# Altium integrated library Xilinx CoolRunner XPLA3.IntLib: 110 symbols (part 1 of 7)
Pins are listed as number, name and electrical type; pins without a type are passive.

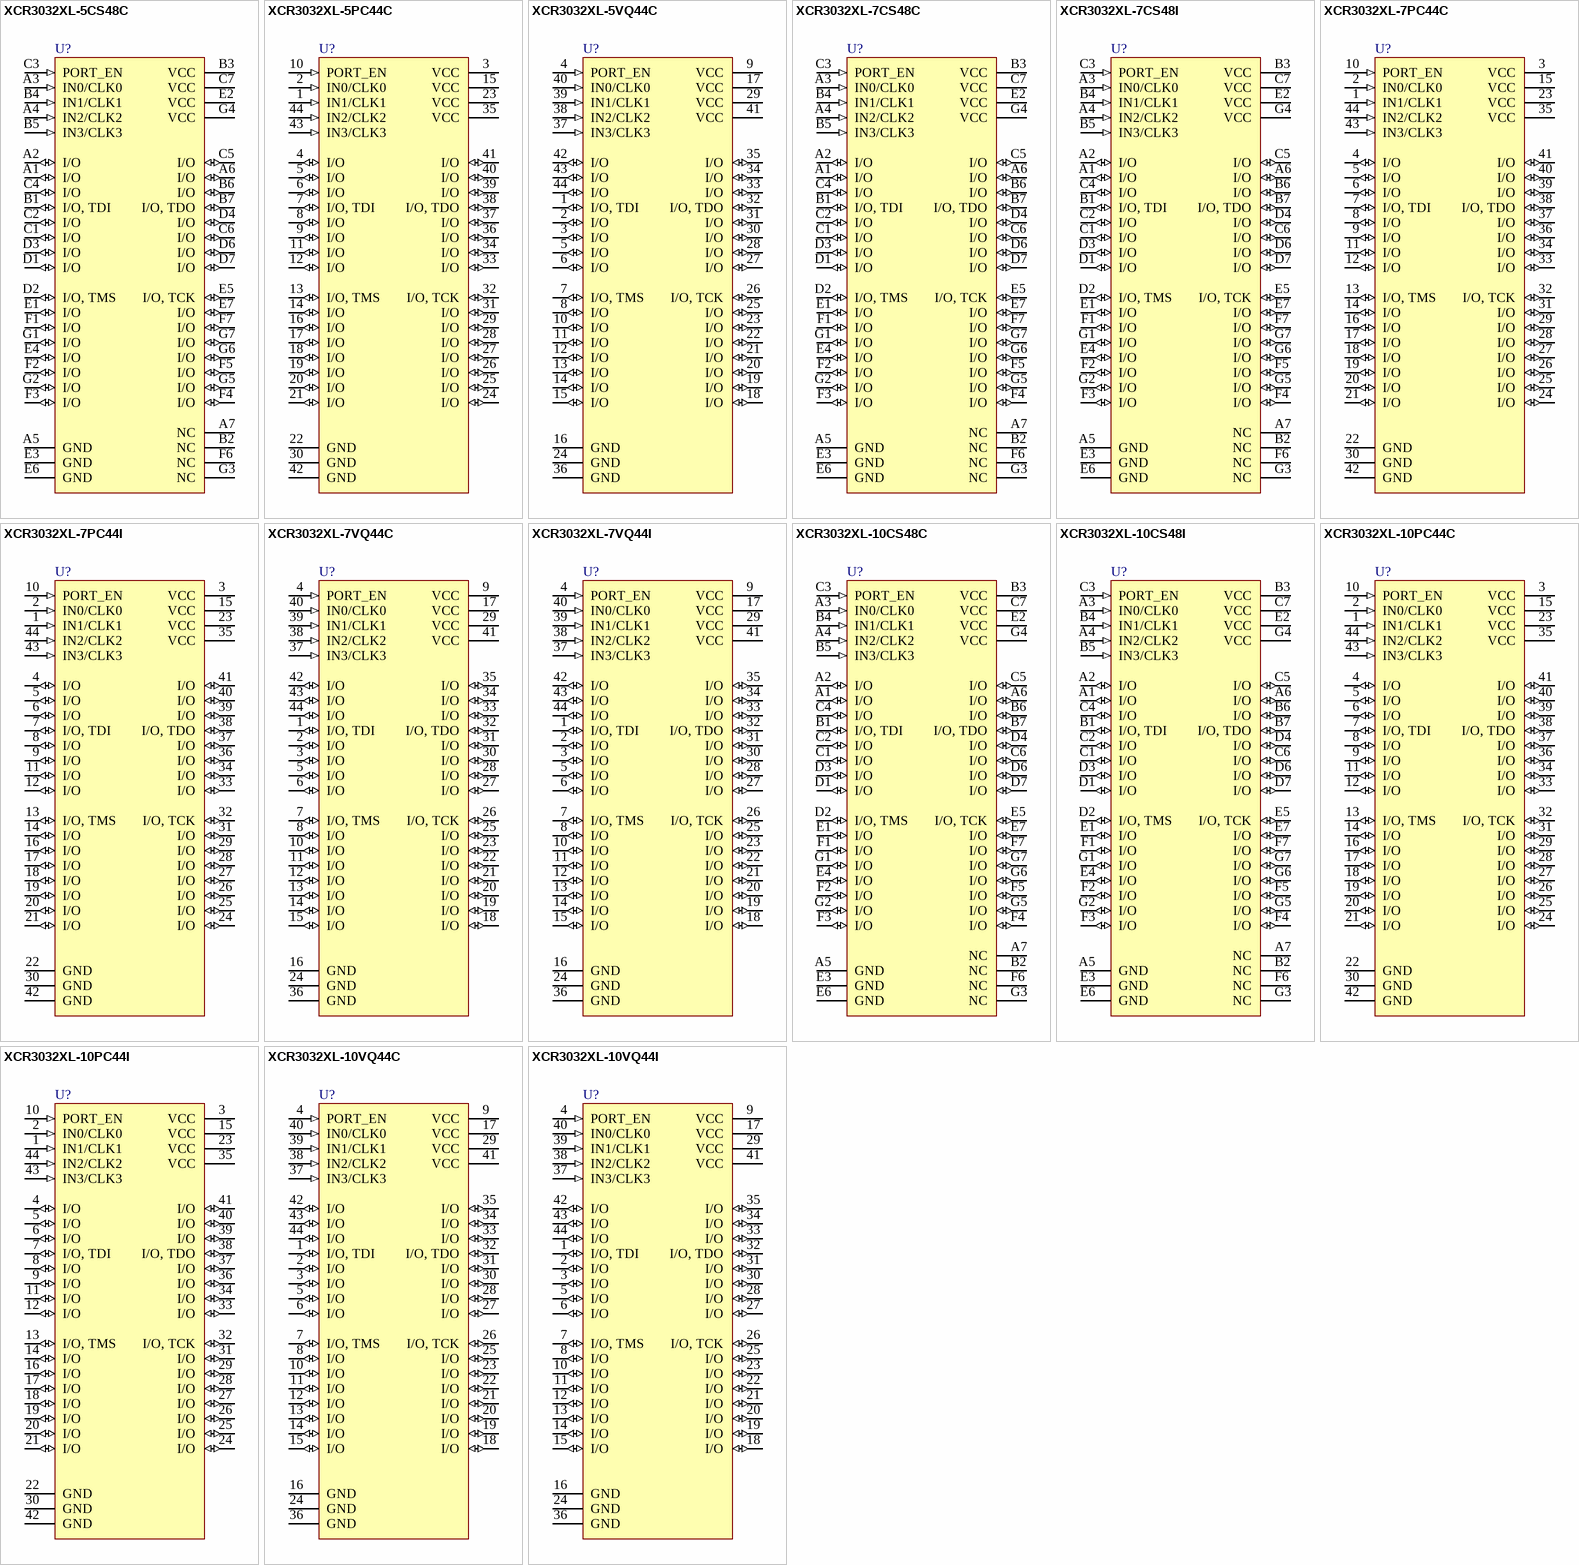
[diagram p0: symbols XCR3032XL-5CS48C to XCR3032XL-10VQ44I]

## XCR3032XL-5CS48C
designator U?
CoolRunner XPLA3, 3.3V, 32 Macrocell CPLD, 48-Ball CSBGA, Commercial Grade; PackageDocument: ver1.1, Apr-2001; Published: 17-Jul-2002; DatasheetDocument: ver1.9, Feb-2004; PackageReference: CS48; Publisher: Altium Limited
footprint CS48 (48-Ball Chip Scale Ball Grid Array (CS48))
3D model XCR3032XL-CS48 (48-Ball Chip Scale Ball Grid Array (CS48))
signal-integrity model XCR3032XL_CS48 (CoolRunner XPLA3)
pins: A1 I/O (io), A2 I/O (io), A3 IN0/CLK0 (in), A4 IN2/CLK2 (in), A5 GND (power), A6 I/O (io), A7 NC, B1 I/O, TDI (io), B2 NC, B3 VCC (power), B4 IN1/CLK1 (in), B5 IN3/CLK3 (in), B6 I/O (io), B7 I/O, TDO (io), C1 I/O (io), C2 I/O (io), C3 PORT_EN (in), C4 I/O (io), C5 I/O (io), C6 I/O (io), C7 VCC (power), D1 I/O (io), D2 I/O, TMS (io), D3 I/O (io), D4 I/O (io), D6 I/O (io), D7 I/O (io), E1 I/O (io), E2 VCC (power), E3 GND (power), E4 I/O (io), E5 I/O, TCK (io), E6 GND (power), E7 I/O (io), F1 I/O (io), F2 I/O (io), F3 I/O (io), F4 I/O (io), F5 I/O (io), F6 NC, F7 I/O (io), G1 I/O (io), G2 I/O (io), G3 NC, G4 VCC (power), G5 I/O (io), G6 I/O (io), G7 I/O (io)

## XCR3032XL-5PC44C
designator U?
CoolRunner XPLA3, 3.3V, 32 Macrocell CPLD, 44-Pin PLCC, Commercial Grade; PackageDocument: ver1.0, Jun-2000; Published: 17-Jul-2002; DatasheetDocument: ver1.9, Feb-2004; PackageReference: PC44; Publisher: Altium Limited; Code_JEDEC: MS-047; Code_IPC: PLCC-44
footprint PC44 (44-Pin Plastic Leaded Chip Carrier (PC44))
3D model XCR3032XL-PC44 (44-Pin Plastic Leaded Chip Carrier (PC44))
signal-integrity model XCR3032XL_PC44 (CoolRunner XPLA3)
pins: 1 IN1/CLK1 (in), 2 IN0/CLK0 (in), 3 VCC (power), 4 I/O (io), 5 I/O (io), 6 I/O (io), 7 I/O, TDI (io), 8 I/O (io), 9 I/O (io), 10 PORT_EN (in), 11 I/O (io), 12 I/O (io), 13 I/O, TMS (io), 14 I/O (io), 15 VCC (power), 16 I/O (io), 17 I/O (io), 18 I/O (io), 19 I/O (io), 20 I/O (io), 21 I/O (io), 22 GND (power), 23 VCC (power), 24 I/O (io), 25 I/O (io), 26 I/O (io), 27 I/O (io), 28 I/O (io), 29 I/O (io), 30 GND (power), 31 I/O (io), 32 I/O, TCK (io), 33 I/O (io), 34 I/O (io), 35 VCC (power), 36 I/O (io), 37 I/O (io), 38 I/O, TDO (io), 39 I/O (io), 40 I/O (io), 41 I/O (io), 42 GND (power), 43 IN3/CLK3 (in), 44 IN2/CLK2 (in)

## XCR3032XL-5VQ44C
designator U?
CoolRunner XPLA3, 3.3V, 32 Macrocell CPLD, 44-Pin VQFP, Commercial Grade; PackageDocument: ver1.1, Oct-2002; Published: 17-Jul-2002; DatasheetDocument: ver1.9, Feb-2004; PackageReference: VQ44; Publisher: Altium Limited; Code_JEDEC: MS-026-ACB
footprint VQ44 (44-Pin Very Thin Quad Flat Pack (VQ44))
3D model XCR3032XL-VQ44 (44-Pin Very Thin Quad Flat Pack (VQ44))
signal-integrity model XCR3032XL_VQ44 (CoolRunner XPLA3)
pins: 1 I/O, TDI (io), 2 I/O (io), 3 I/O (io), 4 PORT_EN (in), 5 I/O (io), 6 I/O (io), 7 I/O, TMS (io), 8 I/O (io), 9 VCC (power), 10 I/O (io), 11 I/O (io), 12 I/O (io), 13 I/O (io), 14 I/O (io), 15 I/O (io), 16 GND (power), 17 VCC (power), 18 I/O (io), 19 I/O (io), 20 I/O (io), 21 I/O (io), 22 I/O (io), 23 I/O (io), 24 GND (power), 25 I/O (io), 26 I/O, TCK (io), 27 I/O (io), 28 I/O (io), 29 VCC (power), 30 I/O (io), 31 I/O (io), 32 I/O, TDO (io), 33 I/O (io), 34 I/O (io), 35 I/O (io), 36 GND (power), 37 IN3/CLK3 (in), 38 IN2/CLK2 (in), 39 IN1/CLK1 (in), 40 IN0/CLK0 (in), 41 VCC (power), 42 I/O (io), 43 I/O (io), 44 I/O (io)

## XCR3032XL-7CS48C
designator U?
CoolRunner XPLA3, 3.3V, 32 Macrocell CPLD, 48-Ball CSBGA, Commercial Grade; PackageDocument: ver1.1, Apr-2001; Published: 17-Jul-2002; DatasheetDocument: ver1.9, Feb-2004; PackageReference: CS48; Publisher: Altium Limited
footprint CS48 (48-Ball Chip Scale Ball Grid Array (CS48))
3D model XCR3032XL-CS48 (48-Ball Chip Scale Ball Grid Array (CS48))
signal-integrity model XCR3032XL_CS48 (CoolRunner XPLA3)
pins: A1 I/O (io), A2 I/O (io), A3 IN0/CLK0 (in), A4 IN2/CLK2 (in), A5 GND (power), A6 I/O (io), A7 NC, B1 I/O, TDI (io), B2 NC, B3 VCC (power), B4 IN1/CLK1 (in), B5 IN3/CLK3 (in), B6 I/O (io), B7 I/O, TDO (io), C1 I/O (io), C2 I/O (io), C3 PORT_EN (in), C4 I/O (io), C5 I/O (io), C6 I/O (io), C7 VCC (power), D1 I/O (io), D2 I/O, TMS (io), D3 I/O (io), D4 I/O (io), D6 I/O (io), D7 I/O (io), E1 I/O (io), E2 VCC (power), E3 GND (power), E4 I/O (io), E5 I/O, TCK (io), E6 GND (power), E7 I/O (io), F1 I/O (io), F2 I/O (io), F3 I/O (io), F4 I/O (io), F5 I/O (io), F6 NC, F7 I/O (io), G1 I/O (io), G2 I/O (io), G3 NC, G4 VCC (power), G5 I/O (io), G6 I/O (io), G7 I/O (io)

## XCR3032XL-7CS48I
designator U?
CoolRunner XPLA3, 3.3V, 32 Macrocell CPLD, 48-Ball CSBGA, Industrial Grade; PackageDocument: ver1.1, Apr-2001; Published: 17-Jul-2002; DatasheetDocument: ver1.9, Feb-2004; PackageReference: CS48; Publisher: Altium Limited
footprint CS48 (48-Ball Chip Scale Ball Grid Array (CS48))
3D model XCR3032XL-CS48 (48-Ball Chip Scale Ball Grid Array (CS48))
signal-integrity model XCR3032XL_CS48 (CoolRunner XPLA3)
pins: A1 I/O (io), A2 I/O (io), A3 IN0/CLK0 (in), A4 IN2/CLK2 (in), A5 GND (power), A6 I/O (io), A7 NC, B1 I/O, TDI (io), B2 NC, B3 VCC (power), B4 IN1/CLK1 (in), B5 IN3/CLK3 (in), B6 I/O (io), B7 I/O, TDO (io), C1 I/O (io), C2 I/O (io), C3 PORT_EN (in), C4 I/O (io), C5 I/O (io), C6 I/O (io), C7 VCC (power), D1 I/O (io), D2 I/O, TMS (io), D3 I/O (io), D4 I/O (io), D6 I/O (io), D7 I/O (io), E1 I/O (io), E2 VCC (power), E3 GND (power), E4 I/O (io), E5 I/O, TCK (io), E6 GND (power), E7 I/O (io), F1 I/O (io), F2 I/O (io), F3 I/O (io), F4 I/O (io), F5 I/O (io), F6 NC, F7 I/O (io), G1 I/O (io), G2 I/O (io), G3 NC, G4 VCC (power), G5 I/O (io), G6 I/O (io), G7 I/O (io)

## XCR3032XL-7PC44C
designator U?
CoolRunner XPLA3, 3.3V, 32 Macrocell CPLD, 44-Pin PLCC, Commercial Grade; PackageDocument: ver1.0, Jun-2000; Published: 17-Jul-2002; DatasheetDocument: ver1.9, Feb-2004; PackageReference: PC44; Publisher: Altium Limited; Code_JEDEC: MS-047; Code_IPC: PLCC-44
footprint PC44 (44-Pin Plastic Leaded Chip Carrier (PC44))
3D model XCR3032XL-PC44 (44-Pin Plastic Leaded Chip Carrier (PC44))
signal-integrity model XCR3032XL_PC44 (CoolRunner XPLA3)
pins: 1 IN1/CLK1 (in), 2 IN0/CLK0 (in), 3 VCC (power), 4 I/O (io), 5 I/O (io), 6 I/O (io), 7 I/O, TDI (io), 8 I/O (io), 9 I/O (io), 10 PORT_EN (in), 11 I/O (io), 12 I/O (io), 13 I/O, TMS (io), 14 I/O (io), 15 VCC (power), 16 I/O (io), 17 I/O (io), 18 I/O (io), 19 I/O (io), 20 I/O (io), 21 I/O (io), 22 GND (power), 23 VCC (power), 24 I/O (io), 25 I/O (io), 26 I/O (io), 27 I/O (io), 28 I/O (io), 29 I/O (io), 30 GND (power), 31 I/O (io), 32 I/O, TCK (io), 33 I/O (io), 34 I/O (io), 35 VCC (power), 36 I/O (io), 37 I/O (io), 38 I/O, TDO (io), 39 I/O (io), 40 I/O (io), 41 I/O (io), 42 GND (power), 43 IN3/CLK3 (in), 44 IN2/CLK2 (in)

## XCR3032XL-7PC44I
designator U?
CoolRunner XPLA3, 3.3V, 32 Macrocell CPLD, 44-Pin PLCC, Industrial Grade; PackageDocument: ver1.0, Jun-2000; Published: 17-Jul-2002; DatasheetDocument: ver1.9, Feb-2004; PackageReference: PC44; Publisher: Altium Limited; Code_JEDEC: MS-047; Code_IPC: PLCC-44
footprint PC44 (44-Pin Plastic Leaded Chip Carrier (PC44))
3D model XCR3032XL-PC44 (44-Pin Plastic Leaded Chip Carrier (PC44))
signal-integrity model XCR3032XL_PC44 (CoolRunner XPLA3)
pins: 1 IN1/CLK1 (in), 2 IN0/CLK0 (in), 3 VCC (power), 4 I/O (io), 5 I/O (io), 6 I/O (io), 7 I/O, TDI (io), 8 I/O (io), 9 I/O (io), 10 PORT_EN (in), 11 I/O (io), 12 I/O (io), 13 I/O, TMS (io), 14 I/O (io), 15 VCC (power), 16 I/O (io), 17 I/O (io), 18 I/O (io), 19 I/O (io), 20 I/O (io), 21 I/O (io), 22 GND (power), 23 VCC (power), 24 I/O (io), 25 I/O (io), 26 I/O (io), 27 I/O (io), 28 I/O (io), 29 I/O (io), 30 GND (power), 31 I/O (io), 32 I/O, TCK (io), 33 I/O (io), 34 I/O (io), 35 VCC (power), 36 I/O (io), 37 I/O (io), 38 I/O, TDO (io), 39 I/O (io), 40 I/O (io), 41 I/O (io), 42 GND (power), 43 IN3/CLK3 (in), 44 IN2/CLK2 (in)

## XCR3032XL-7VQ44C
designator U?
CoolRunner XPLA3, 3.3V, 32 Macrocell CPLD, 44-Pin VQFP, Commercial Grade; PackageDocument: ver1.1, Oct-2002; Published: 17-Jul-2002; DatasheetDocument: ver1.9, Feb-2004; PackageReference: VQ44; Publisher: Altium Limited; Code_JEDEC: MS-026-ACB
footprint VQ44 (44-Pin Very Thin Quad Flat Pack (VQ44))
3D model XCR3032XL-VQ44 (44-Pin Very Thin Quad Flat Pack (VQ44))
signal-integrity model XCR3032XL_VQ44 (CoolRunner XPLA3)
pins: 1 I/O, TDI (io), 2 I/O (io), 3 I/O (io), 4 PORT_EN (in), 5 I/O (io), 6 I/O (io), 7 I/O, TMS (io), 8 I/O (io), 9 VCC (power), 10 I/O (io), 11 I/O (io), 12 I/O (io), 13 I/O (io), 14 I/O (io), 15 I/O (io), 16 GND (power), 17 VCC (power), 18 I/O (io), 19 I/O (io), 20 I/O (io), 21 I/O (io), 22 I/O (io), 23 I/O (io), 24 GND (power), 25 I/O (io), 26 I/O, TCK (io), 27 I/O (io), 28 I/O (io), 29 VCC (power), 30 I/O (io), 31 I/O (io), 32 I/O, TDO (io), 33 I/O (io), 34 I/O (io), 35 I/O (io), 36 GND (power), 37 IN3/CLK3 (in), 38 IN2/CLK2 (in), 39 IN1/CLK1 (in), 40 IN0/CLK0 (in), 41 VCC (power), 42 I/O (io), 43 I/O (io), 44 I/O (io)

## XCR3032XL-7VQ44I
designator U?
CoolRunner XPLA3, 3.3V, 32 Macrocell CPLD, 44-Pin VQFP, Industrial Grade; PackageDocument: ver1.1, Oct-2002; Published: 17-Jul-2002; DatasheetDocument: ver1.9, Feb-2004; PackageReference: VQ44; Publisher: Altium Limited; Code_JEDEC: MS-026-ACB
footprint VQ44 (44-Pin Very Thin Quad Flat Pack (VQ44))
3D model XCR3032XL-VQ44 (44-Pin Very Thin Quad Flat Pack (VQ44))
signal-integrity model XCR3032XL_VQ44 (CoolRunner XPLA3)
pins: 1 I/O, TDI (io), 2 I/O (io), 3 I/O (io), 4 PORT_EN (in), 5 I/O (io), 6 I/O (io), 7 I/O, TMS (io), 8 I/O (io), 9 VCC (power), 10 I/O (io), 11 I/O (io), 12 I/O (io), 13 I/O (io), 14 I/O (io), 15 I/O (io), 16 GND (power), 17 VCC (power), 18 I/O (io), 19 I/O (io), 20 I/O (io), 21 I/O (io), 22 I/O (io), 23 I/O (io), 24 GND (power), 25 I/O (io), 26 I/O, TCK (io), 27 I/O (io), 28 I/O (io), 29 VCC (power), 30 I/O (io), 31 I/O (io), 32 I/O, TDO (io), 33 I/O (io), 34 I/O (io), 35 I/O (io), 36 GND (power), 37 IN3/CLK3 (in), 38 IN2/CLK2 (in), 39 IN1/CLK1 (in), 40 IN0/CLK0 (in), 41 VCC (power), 42 I/O (io), 43 I/O (io), 44 I/O (io)

## XCR3032XL-10CS48C
designator U?
CoolRunner XPLA3, 3.3V, 32 Macrocell CPLD, 48-Ball CSBGA, Commercial Grade; PackageDocument: ver1.1, Apr-2001; Published: 17-Jul-2002; DatasheetDocument: ver1.9, Feb-2004; PackageReference: CS48; Publisher: Altium Limited
footprint CS48 (48-Ball Chip Scale Ball Grid Array (CS48))
3D model XCR3032XL-CS48 (48-Ball Chip Scale Ball Grid Array (CS48))
signal-integrity model XCR3032XL_CS48 (CoolRunner XPLA3)
pins: A1 I/O (io), A2 I/O (io), A3 IN0/CLK0 (in), A4 IN2/CLK2 (in), A5 GND (power), A6 I/O (io), A7 NC, B1 I/O, TDI (io), B2 NC, B3 VCC (power), B4 IN1/CLK1 (in), B5 IN3/CLK3 (in), B6 I/O (io), B7 I/O, TDO (io), C1 I/O (io), C2 I/O (io), C3 PORT_EN (in), C4 I/O (io), C5 I/O (io), C6 I/O (io), C7 VCC (power), D1 I/O (io), D2 I/O, TMS (io), D3 I/O (io), D4 I/O (io), D6 I/O (io), D7 I/O (io), E1 I/O (io), E2 VCC (power), E3 GND (power), E4 I/O (io), E5 I/O, TCK (io), E6 GND (power), E7 I/O (io), F1 I/O (io), F2 I/O (io), F3 I/O (io), F4 I/O (io), F5 I/O (io), F6 NC, F7 I/O (io), G1 I/O (io), G2 I/O (io), G3 NC, G4 VCC (power), G5 I/O (io), G6 I/O (io), G7 I/O (io)

## XCR3032XL-10CS48I
designator U?
CoolRunner XPLA3, 3.3V, 32 Macrocell CPLD, 48-Ball CSBGA, Industrial Grade; PackageDocument: ver1.1, Apr-2001; Published: 17-Jul-2002; DatasheetDocument: ver1.9, Feb-2004; PackageReference: CS48; Publisher: Altium Limited
footprint CS48 (48-Ball Chip Scale Ball Grid Array (CS48))
3D model XCR3032XL-CS48 (48-Ball Chip Scale Ball Grid Array (CS48))
signal-integrity model XCR3032XL_CS48 (CoolRunner XPLA3)
pins: A1 I/O (io), A2 I/O (io), A3 IN0/CLK0 (in), A4 IN2/CLK2 (in), A5 GND (power), A6 I/O (io), A7 NC, B1 I/O, TDI (io), B2 NC, B3 VCC (power), B4 IN1/CLK1 (in), B5 IN3/CLK3 (in), B6 I/O (io), B7 I/O, TDO (io), C1 I/O (io), C2 I/O (io), C3 PORT_EN (in), C4 I/O (io), C5 I/O (io), C6 I/O (io), C7 VCC (power), D1 I/O (io), D2 I/O, TMS (io), D3 I/O (io), D4 I/O (io), D6 I/O (io), D7 I/O (io), E1 I/O (io), E2 VCC (power), E3 GND (power), E4 I/O (io), E5 I/O, TCK (io), E6 GND (power), E7 I/O (io), F1 I/O (io), F2 I/O (io), F3 I/O (io), F4 I/O (io), F5 I/O (io), F6 NC, F7 I/O (io), G1 I/O (io), G2 I/O (io), G3 NC, G4 VCC (power), G5 I/O (io), G6 I/O (io), G7 I/O (io)

## XCR3032XL-10PC44C
designator U?
CoolRunner XPLA3, 3.3V, 32 Macrocell CPLD, 44-Pin PLCC, Commercial Grade; PackageDocument: ver1.0, Jun-2000; Published: 17-Jul-2002; DatasheetDocument: ver1.9, Feb-2004; PackageReference: PC44; Publisher: Altium Limited; Code_JEDEC: MS-047; Code_IPC: PLCC-44
footprint PC44 (44-Pin Plastic Leaded Chip Carrier (PC44))
3D model XCR3032XL-PC44 (44-Pin Plastic Leaded Chip Carrier (PC44))
signal-integrity model XCR3032XL_PC44 (CoolRunner XPLA3)
pins: 1 IN1/CLK1 (in), 2 IN0/CLK0 (in), 3 VCC (power), 4 I/O (io), 5 I/O (io), 6 I/O (io), 7 I/O, TDI (io), 8 I/O (io), 9 I/O (io), 10 PORT_EN (in), 11 I/O (io), 12 I/O (io), 13 I/O, TMS (io), 14 I/O (io), 15 VCC (power), 16 I/O (io), 17 I/O (io), 18 I/O (io), 19 I/O (io), 20 I/O (io), 21 I/O (io), 22 GND (power), 23 VCC (power), 24 I/O (io), 25 I/O (io), 26 I/O (io), 27 I/O (io), 28 I/O (io), 29 I/O (io), 30 GND (power), 31 I/O (io), 32 I/O, TCK (io), 33 I/O (io), 34 I/O (io), 35 VCC (power), 36 I/O (io), 37 I/O (io), 38 I/O, TDO (io), 39 I/O (io), 40 I/O (io), 41 I/O (io), 42 GND (power), 43 IN3/CLK3 (in), 44 IN2/CLK2 (in)

## XCR3032XL-10PC44I
designator U?
CoolRunner XPLA3, 3.3V, 32 Macrocell CPLD, 44-Pin PLCC, Industrial Grade; PackageDocument: ver1.0, Jun-2000; Published: 17-Jul-2002; DatasheetDocument: ver1.9, Feb-2004; PackageReference: PC44; Publisher: Altium Limited; Code_JEDEC: MS-047; Code_IPC: PLCC-44
footprint PC44 (44-Pin Plastic Leaded Chip Carrier (PC44))
3D model XCR3032XL-PC44 (44-Pin Plastic Leaded Chip Carrier (PC44))
signal-integrity model XCR3032XL_PC44 (CoolRunner XPLA3)
pins: 1 IN1/CLK1 (in), 2 IN0/CLK0 (in), 3 VCC (power), 4 I/O (io), 5 I/O (io), 6 I/O (io), 7 I/O, TDI (io), 8 I/O (io), 9 I/O (io), 10 PORT_EN (in), 11 I/O (io), 12 I/O (io), 13 I/O, TMS (io), 14 I/O (io), 15 VCC (power), 16 I/O (io), 17 I/O (io), 18 I/O (io), 19 I/O (io), 20 I/O (io), 21 I/O (io), 22 GND (power), 23 VCC (power), 24 I/O (io), 25 I/O (io), 26 I/O (io), 27 I/O (io), 28 I/O (io), 29 I/O (io), 30 GND (power), 31 I/O (io), 32 I/O, TCK (io), 33 I/O (io), 34 I/O (io), 35 VCC (power), 36 I/O (io), 37 I/O (io), 38 I/O, TDO (io), 39 I/O (io), 40 I/O (io), 41 I/O (io), 42 GND (power), 43 IN3/CLK3 (in), 44 IN2/CLK2 (in)

## XCR3032XL-10VQ44C
designator U?
CoolRunner XPLA3, 3.3V, 32 Macrocell CPLD, 44-Pin VQFP, Commercial Grade; PackageDocument: ver1.1, Oct-2002; Published: 17-Jul-2002; DatasheetDocument: ver1.9, Feb-2004; PackageReference: VQ44; Publisher: Altium Limited; Code_JEDEC: MS-026-ACB
footprint VQ44 (44-Pin Very Thin Quad Flat Pack (VQ44))
3D model XCR3032XL-VQ44 (44-Pin Very Thin Quad Flat Pack (VQ44))
signal-integrity model XCR3032XL_VQ44 (CoolRunner XPLA3)
pins: 1 I/O, TDI (io), 2 I/O (io), 3 I/O (io), 4 PORT_EN (in), 5 I/O (io), 6 I/O (io), 7 I/O, TMS (io), 8 I/O (io), 9 VCC (power), 10 I/O (io), 11 I/O (io), 12 I/O (io), 13 I/O (io), 14 I/O (io), 15 I/O (io), 16 GND (power), 17 VCC (power), 18 I/O (io), 19 I/O (io), 20 I/O (io), 21 I/O (io), 22 I/O (io), 23 I/O (io), 24 GND (power), 25 I/O (io), 26 I/O, TCK (io), 27 I/O (io), 28 I/O (io), 29 VCC (power), 30 I/O (io), 31 I/O (io), 32 I/O, TDO (io), 33 I/O (io), 34 I/O (io), 35 I/O (io), 36 GND (power), 37 IN3/CLK3 (in), 38 IN2/CLK2 (in), 39 IN1/CLK1 (in), 40 IN0/CLK0 (in), 41 VCC (power), 42 I/O (io), 43 I/O (io), 44 I/O (io)

## XCR3032XL-10VQ44I
designator U?
CoolRunner XPLA3, 3.3V, 32 Macrocell CPLD, 44-Pin VQFP, Industrial Grade; PackageDocument: ver1.1, Oct-2002; Published: 17-Jul-2002; DatasheetDocument: ver1.9, Feb-2004; PackageReference: VQ44; Publisher: Altium Limited; Code_JEDEC: MS-026-ACB
footprint VQ44 (44-Pin Very Thin Quad Flat Pack (VQ44))
3D model XCR3032XL-VQ44 (44-Pin Very Thin Quad Flat Pack (VQ44))
signal-integrity model XCR3032XL_VQ44 (CoolRunner XPLA3)
pins: 1 I/O, TDI (io), 2 I/O (io), 3 I/O (io), 4 PORT_EN (in), 5 I/O (io), 6 I/O (io), 7 I/O, TMS (io), 8 I/O (io), 9 VCC (power), 10 I/O (io), 11 I/O (io), 12 I/O (io), 13 I/O (io), 14 I/O (io), 15 I/O (io), 16 GND (power), 17 VCC (power), 18 I/O (io), 19 I/O (io), 20 I/O (io), 21 I/O (io), 22 I/O (io), 23 I/O (io), 24 GND (power), 25 I/O (io), 26 I/O, TCK (io), 27 I/O (io), 28 I/O (io), 29 VCC (power), 30 I/O (io), 31 I/O (io), 32 I/O, TDO (io), 33 I/O (io), 34 I/O (io), 35 I/O (io), 36 GND (power), 37 IN3/CLK3 (in), 38 IN2/CLK2 (in), 39 IN1/CLK1 (in), 40 IN0/CLK0 (in), 41 VCC (power), 42 I/O (io), 43 I/O (io), 44 I/O (io)

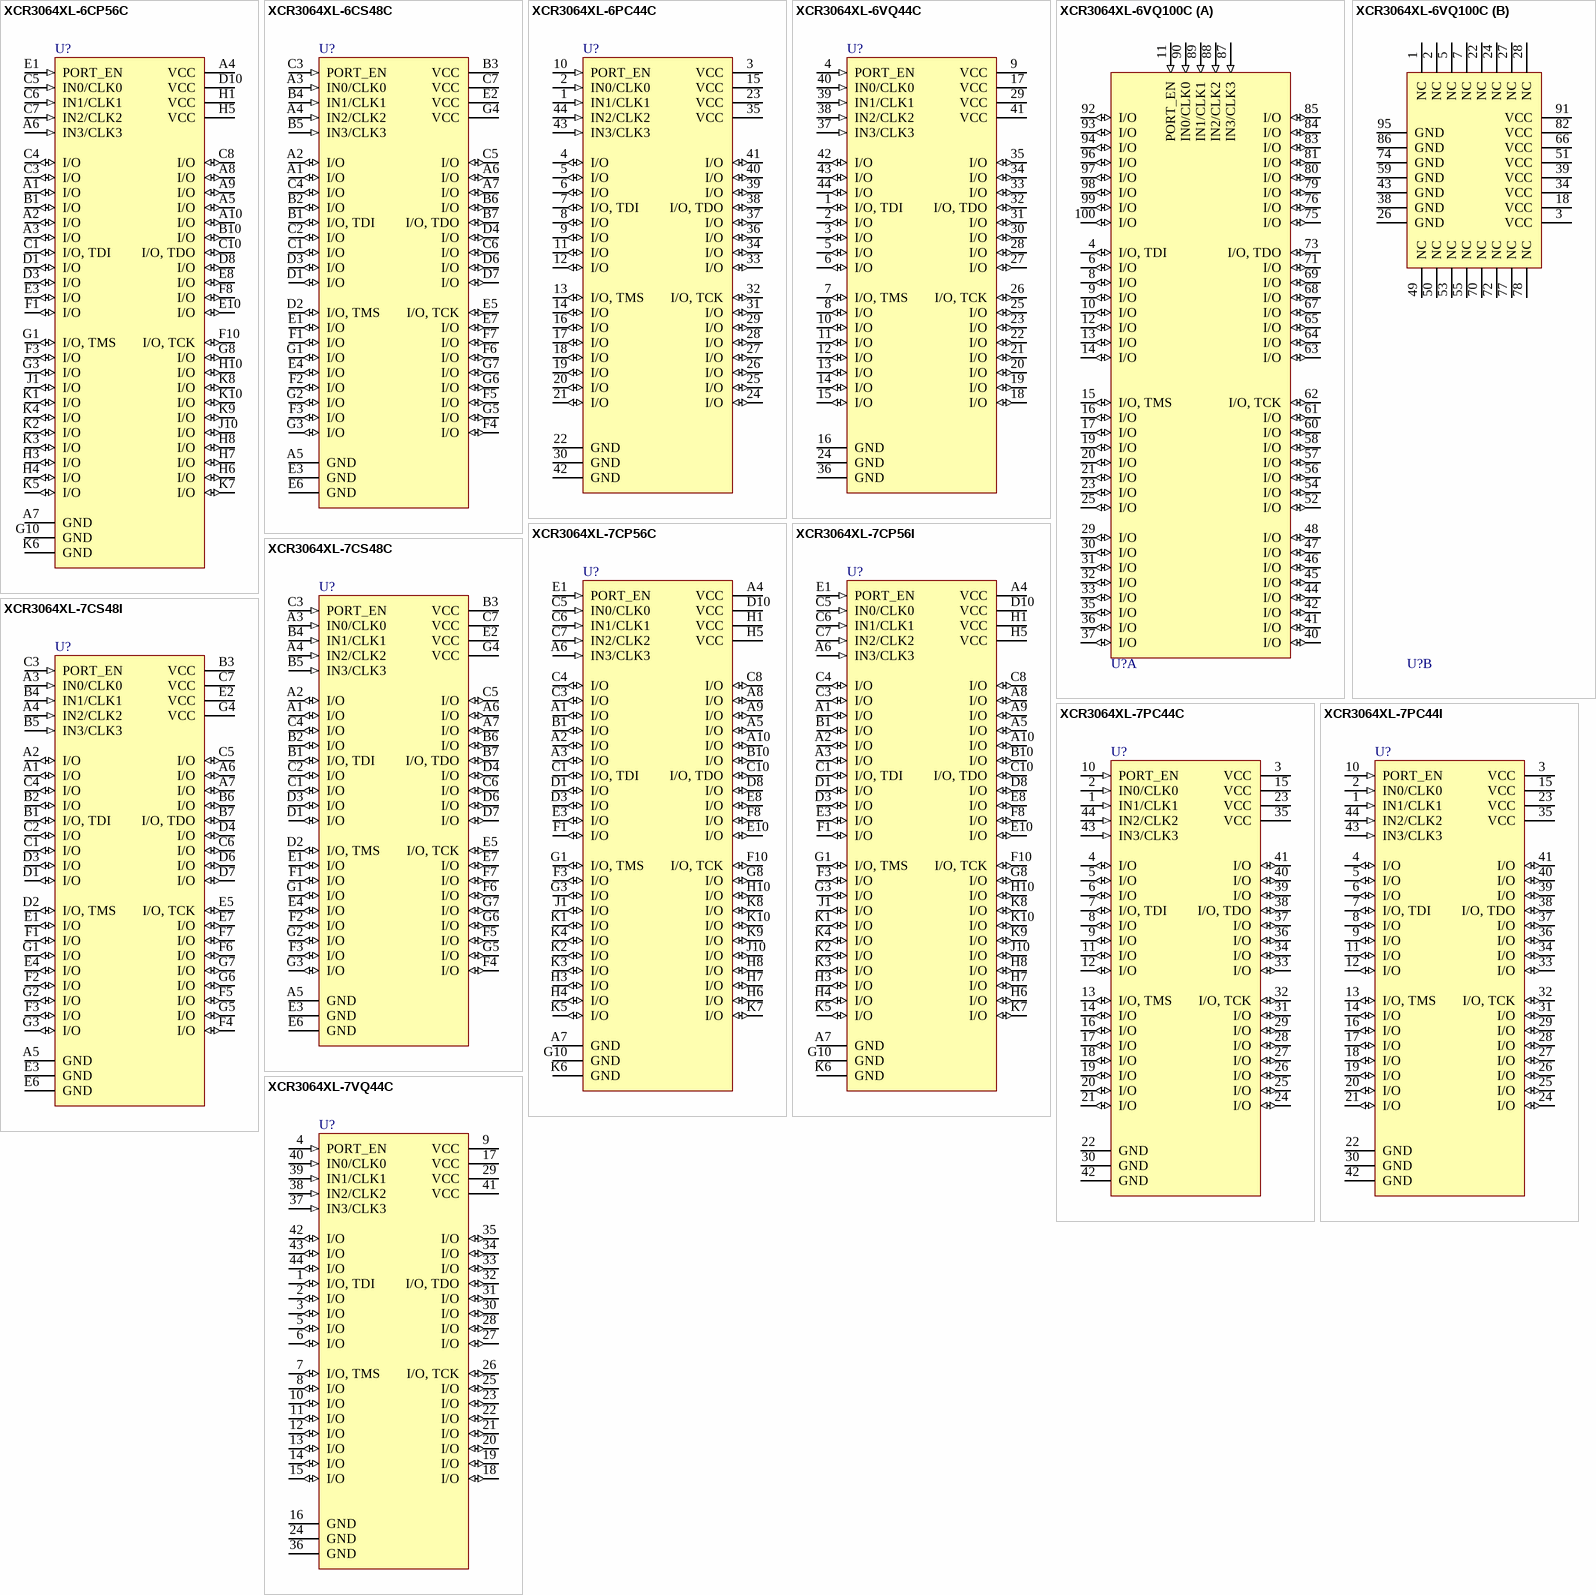
[diagram p1: symbols XCR3064XL-6CP56C to XCR3064XL-7VQ44C]

## XCR3064XL-6CP56C
designator U?
CoolRunner XPLA3, 3.3V, 64 Macrocell CPLD, 56-Ball CSP, Commercial Grade; PackageDocument: ver1.0, Jun-2000; Published: 17-Jul-2002; DatasheetDocument: ver2.1, Feb-2004; PackageReference: CP56; Publisher: Altium Limited
footprint CP56 (56-Ball Chip Scale Ball Grid Array 0.5mm Pitch (CP56))
3D model XCR3064XL-CP56 (56-Ball Chip Scale Ball Grid Array 0.5mm Pitch (CP56))
signal-integrity model XCR3064XL_CP56 (CoolRunner XPLA3)
pins: A1 I/O (io), A2 I/O (io), A3 I/O (io), A4 VCC (power), A5 I/O (io), A6 IN3/CLK3 (in), A7 GND (power), A8 I/O (io), A9 I/O (io), A10 I/O (io), B1 I/O (io), B10 I/O (io), C1 I/O, TDI (io), C3 I/O (io), C4 I/O (io), C5 IN0/CLK0 (in), C6 IN1/CLK1 (in), C7 IN2/CLK2 (in), C8 I/O (io), C10 I/O, TDO (io), D1 I/O (io), D3 I/O (io), D8 I/O (io), D10 VCC (power), E1 PORT_EN (in), E3 I/O (io), E8 I/O (io), E10 I/O (io), F1 I/O (io), F3 I/O (io), F8 I/O (io), F10 I/O, TCK (io), G1 I/O, TMS (io), G3 I/O (io), G8 I/O (io), G10 GND (power), H1 VCC (power), H3 I/O (io), H4 I/O (io), H5 VCC (power), H6 I/O (io), H7 I/O (io), H8 I/O (io), H10 I/O (io), J1 I/O (io), J10 I/O (io), K1 I/O (io), K2 I/O (io), K3 I/O (io), K4 I/O (io), K5 I/O (io), K6 GND (power), K7 I/O (io), K8 I/O (io), K9 I/O (io), K10 I/O (io)

## XCR3064XL-6CS48C
designator U?
CoolRunner XPLA3, 3.3V, 64 Macrocell CPLD, 48-Ball CSBGA, Commercial Grade; PackageDocument: ver1.1, Apr-2001; Published: 17-Jul-2002; DatasheetDocument: ver2.1, Feb-2004; PackageReference: CS48; Publisher: Altium Limited
footprint CS48 (48-Ball Chip Scale Ball Grid Array (CS48))
3D model XCR3064XL-CS48 (48-Ball Chip Scale Ball Grid Array (CS48))
signal-integrity model XCR3064XL_CS48 (CoolRunner XPLA3)
pins: A1 I/O (io), A2 I/O (io), A3 IN0/CLK0 (in), A4 IN2/CLK2 (in), A5 GND (power), A6 I/O (io), A7 I/O (io), B1 I/O, TDI (io), B2 I/O (io), B3 VCC (power), B4 IN1/CLK1 (in), B5 IN3/CLK3 (in), B6 I/O (io), B7 I/O, TDO (io), C1 I/O (io), C2 I/O (io), C3 PORT_EN (in), C4 I/O (io), C5 I/O (io), C6 I/O (io), C7 VCC (power), D1 I/O (io), D2 I/O, TMS (io), D3 I/O (io), D4 I/O (io), D6 I/O (io), D7 I/O (io), E1 I/O (io), E2 VCC (power), E3 GND (power), E4 I/O (io), E5 I/O, TCK (io), E6 GND (power), E7 I/O (io), F1 I/O (io), F2 I/O (io), F3 I/O (io), F4 I/O (io), F5 I/O (io), F6 I/O (io), F7 I/O (io), G1 I/O (io), G2 I/O (io), G3 I/O (io), G4 VCC (power), G5 I/O (io), G6 I/O (io), G7 I/O (io)

## XCR3064XL-6PC44C
designator U?
CoolRunner XPLA3, 3.3V, 64 Macrocell CPLD, 44-Pin PLCC, Commercial Grade; PackageDocument: ver1.0, Jun-2000; Published: 17-Jul-2002; DatasheetDocument: ver2.1, Feb-2004; PackageReference: PC44; Publisher: Altium Limited; Code_JEDEC: MS-047; Code_IPC: PLCC-44
footprint PC44 (44-Pin Plastic Leaded Chip Carrier (PC44))
3D model XCR3064XL-PC44 (44-Pin Plastic Leaded Chip Carrier (PC44))
signal-integrity model XCR3064XL_PC44 (CoolRunner XPLA3)
pins: 1 IN1/CLK1 (in), 2 IN0/CLK0 (in), 3 VCC (power), 4 I/O (io), 5 I/O (io), 6 I/O (io), 7 I/O, TDI (io), 8 I/O (io), 9 I/O (io), 10 PORT_EN (in), 11 I/O (io), 12 I/O (io), 13 I/O, TMS (io), 14 I/O (io), 15 VCC (power), 16 I/O (io), 17 I/O (io), 18 I/O (io), 19 I/O (io), 20 I/O (io), 21 I/O (io), 22 GND (power), 23 VCC (power), 24 I/O (io), 25 I/O (io), 26 I/O (io), 27 I/O (io), 28 I/O (io), 29 I/O (io), 30 GND (power), 31 I/O (io), 32 I/O, TCK (io), 33 I/O (io), 34 I/O (io), 35 VCC (power), 36 I/O (io), 37 I/O (io), 38 I/O, TDO (io), 39 I/O (io), 40 I/O (io), 41 I/O (io), 42 GND (power), 43 IN3/CLK3 (in), 44 IN2/CLK2 (in)

## XCR3064XL-6VQ44C
designator U?
CoolRunner XPLA3, 3.3V, 64 Macrocell CPLD, 44-Pin VQFP, Commercial Grade; PackageDocument: ver1.1, Oct-2002; Published: 17-Jul-2002; DatasheetDocument: ver2.1, Feb-2004; PackageReference: VQ44; Publisher: Altium Limited; Code_JEDEC: MS-026-ACB
footprint VQ44 (44-Pin Very Thin Quad Flat Pack (VQ44))
3D model XCR3064XL-VQ44 (44-Pin Very Thin Quad Flat Pack (VQ44))
signal-integrity model XCR3064XL_VQ44 (CoolRunner XPLA3)
pins: 1 I/O, TDI (io), 2 I/O (io), 3 I/O (io), 4 PORT_EN (in), 5 I/O (io), 6 I/O (io), 7 I/O, TMS (io), 8 I/O (io), 9 VCC (power), 10 I/O (io), 11 I/O (io), 12 I/O (io), 13 I/O (io), 14 I/O (io), 15 I/O (io), 16 GND (power), 17 VCC (power), 18 I/O (io), 19 I/O (io), 20 I/O (io), 21 I/O (io), 22 I/O (io), 23 I/O (io), 24 GND (power), 25 I/O (io), 26 I/O, TCK (io), 27 I/O (io), 28 I/O (io), 29 VCC (power), 30 I/O (io), 31 I/O (io), 32 I/O, TDO (io), 33 I/O (io), 34 I/O (io), 35 I/O (io), 36 GND (power), 37 IN3/CLK3 (in), 38 IN2/CLK2 (in), 39 IN1/CLK1 (in), 40 IN0/CLK0 (in), 41 VCC (power), 42 I/O (io), 43 I/O (io), 44 I/O (io)

## XCR3064XL-6VQ100C
designator U?
CoolRunner XPLA3, 3.3V, 64 Macrocell CPLD, 100-Pin VQFP, Commercial Grade; PackageDocument: ver1.1, Oct-2002; Published: 17-Jul-2002; DatasheetDocument: ver2.1, Feb-2004; PackageReference: VQ100; Publisher: Altium Limited; Code_JEDEC: MS-026-AED; Code_IPC: SQFP14X14-100
footprint VQ100 (100-Pin Very Thin Quad Flat Pack (VQ100))
3D model XCR3064XL-VQ100 (100-Pin Very Thin Quad Flat Pack (VQ100))
signal-integrity model XCR3064XL_VQ100 (CoolRunner XPLA3)
part A pins: 4 I/O, TDI (io), 6 I/O (io), 8 I/O (io), 9 I/O (io), 10 I/O (io), 11 PORT_EN (in), 12 I/O (io), 13 I/O (io), 14 I/O (io), 15 I/O, TMS (io), 16 I/O (io), 17 I/O (io), 19 I/O (io), 20 I/O (io), 21 I/O (io), 23 I/O (io), 25 I/O (io), 29 I/O (io), 30 I/O (io), 31 I/O (io), 32 I/O (io), 33 I/O (io), 35 I/O (io), 36 I/O (io), 37 I/O (io), 40 I/O (io), 41 I/O (io), 42 I/O (io), 44 I/O (io), 45 I/O (io), 46 I/O (io), 47 I/O (io), 48 I/O (io), 52 I/O (io), 54 I/O (io), 56 I/O (io), 57 I/O (io), 58 I/O (io), 60 I/O (io), 61 I/O (io), 62 I/O, TCK (io), 63 I/O (io), 64 I/O (io), 65 I/O (io), 67 I/O (io), 68 I/O (io), 69 I/O (io), 71 I/O (io), 73 I/O, TDO (io), 75 I/O (io), 76 I/O (io), 79 I/O (io), 80 I/O (io), 81 I/O (io), 83 I/O (io), 84 I/O (io), 85 I/O (io), 87 IN3/CLK3 (in), 88 IN2/CLK2 (in), 89 IN1/CLK1 (in), 90 IN0/CLK0 (in), 92 I/O (io), 93 I/O (io), 94 I/O (io), 96 I/O (io), 97 I/O (io), 98 I/O (io), 99 I/O (io), 100 I/O (io)
part B pins: 1 NC, 2 NC, 3 VCC (power), 5 NC, 7 NC, 18 VCC (power), 22 NC, 24 NC, 26 GND (power), 27 NC, 28 NC, 34 VCC (power), 38 GND (power), 39 VCC (power), 43 GND (power), 49 NC, 50 NC, 51 VCC (power), 53 NC, 55 NC, 59 GND (power), 66 VCC (power), 70 NC, 72 NC, 74 GND (power), 77 NC, 78 NC, 82 VCC (power), 86 GND (power), 91 VCC (power), 95 GND (power)

## XCR3064XL-7CP56C
designator U?
CoolRunner XPLA3, 3.3V, 64 Macrocell CPLD, 56-Ball CSP, Commercial Grade; PackageDocument: ver1.0, Jun-2000; Published: 17-Jul-2002; DatasheetDocument: ver2.1, Feb-2004; PackageReference: CP56; Publisher: Altium Limited
footprint CP56 (56-Ball Chip Scale Ball Grid Array 0.5mm Pitch (CP56))
3D model XCR3064XL-CP56 (56-Ball Chip Scale Ball Grid Array 0.5mm Pitch (CP56))
signal-integrity model XCR3064XL_CP56 (CoolRunner XPLA3)
pins: A1 I/O (io), A2 I/O (io), A3 I/O (io), A4 VCC (power), A5 I/O (io), A6 IN3/CLK3 (in), A7 GND (power), A8 I/O (io), A9 I/O (io), A10 I/O (io), B1 I/O (io), B10 I/O (io), C1 I/O, TDI (io), C3 I/O (io), C4 I/O (io), C5 IN0/CLK0 (in), C6 IN1/CLK1 (in), C7 IN2/CLK2 (in), C8 I/O (io), C10 I/O, TDO (io), D1 I/O (io), D3 I/O (io), D8 I/O (io), D10 VCC (power), E1 PORT_EN (in), E3 I/O (io), E8 I/O (io), E10 I/O (io), F1 I/O (io), F3 I/O (io), F8 I/O (io), F10 I/O, TCK (io), G1 I/O, TMS (io), G3 I/O (io), G8 I/O (io), G10 GND (power), H1 VCC (power), H3 I/O (io), H4 I/O (io), H5 VCC (power), H6 I/O (io), H7 I/O (io), H8 I/O (io), H10 I/O (io), J1 I/O (io), J10 I/O (io), K1 I/O (io), K2 I/O (io), K3 I/O (io), K4 I/O (io), K5 I/O (io), K6 GND (power), K7 I/O (io), K8 I/O (io), K9 I/O (io), K10 I/O (io)

## XCR3064XL-7CP56I
designator U?
CoolRunner XPLA3, 3.3V, 64 Macrocell CPLD, 56-Ball CSP, Industrial Grade; PackageDocument: ver1.0, Jun-2000; Published: 17-Jul-2002; DatasheetDocument: ver2.1, Feb-2004; PackageReference: CP56; Publisher: Altium Limited
footprint CP56 (56-Ball Chip Scale Ball Grid Array 0.5mm Pitch (CP56))
3D model XCR3064XL-CP56 (56-Ball Chip Scale Ball Grid Array 0.5mm Pitch (CP56))
signal-integrity model XCR3064XL_CP56 (CoolRunner XPLA3)
pins: A1 I/O (io), A2 I/O (io), A3 I/O (io), A4 VCC (power), A5 I/O (io), A6 IN3/CLK3 (in), A7 GND (power), A8 I/O (io), A9 I/O (io), A10 I/O (io), B1 I/O (io), B10 I/O (io), C1 I/O, TDI (io), C3 I/O (io), C4 I/O (io), C5 IN0/CLK0 (in), C6 IN1/CLK1 (in), C7 IN2/CLK2 (in), C8 I/O (io), C10 I/O, TDO (io), D1 I/O (io), D3 I/O (io), D8 I/O (io), D10 VCC (power), E1 PORT_EN (in), E3 I/O (io), E8 I/O (io), E10 I/O (io), F1 I/O (io), F3 I/O (io), F8 I/O (io), F10 I/O, TCK (io), G1 I/O, TMS (io), G3 I/O (io), G8 I/O (io), G10 GND (power), H1 VCC (power), H3 I/O (io), H4 I/O (io), H5 VCC (power), H6 I/O (io), H7 I/O (io), H8 I/O (io), H10 I/O (io), J1 I/O (io), J10 I/O (io), K1 I/O (io), K2 I/O (io), K3 I/O (io), K4 I/O (io), K5 I/O (io), K6 GND (power), K7 I/O (io), K8 I/O (io), K9 I/O (io), K10 I/O (io)

## XCR3064XL-7CS48C
designator U?
CoolRunner XPLA3, 3.3V, 64 Macrocell CPLD, 48-Ball CSBGA, Commercial Grade; PackageDocument: ver1.1, Apr-2001; Published: 17-Jul-2002; DatasheetDocument: ver2.1, Feb-2004; PackageReference: CS48; Publisher: Altium Limited
footprint CS48 (48-Ball Chip Scale Ball Grid Array (CS48))
3D model XCR3064XL-CS48 (48-Ball Chip Scale Ball Grid Array (CS48))
signal-integrity model XCR3064XL_CS48 (CoolRunner XPLA3)
pins: A1 I/O (io), A2 I/O (io), A3 IN0/CLK0 (in), A4 IN2/CLK2 (in), A5 GND (power), A6 I/O (io), A7 I/O (io), B1 I/O, TDI (io), B2 I/O (io), B3 VCC (power), B4 IN1/CLK1 (in), B5 IN3/CLK3 (in), B6 I/O (io), B7 I/O, TDO (io), C1 I/O (io), C2 I/O (io), C3 PORT_EN (in), C4 I/O (io), C5 I/O (io), C6 I/O (io), C7 VCC (power), D1 I/O (io), D2 I/O, TMS (io), D3 I/O (io), D4 I/O (io), D6 I/O (io), D7 I/O (io), E1 I/O (io), E2 VCC (power), E3 GND (power), E4 I/O (io), E5 I/O, TCK (io), E6 GND (power), E7 I/O (io), F1 I/O (io), F2 I/O (io), F3 I/O (io), F4 I/O (io), F5 I/O (io), F6 I/O (io), F7 I/O (io), G1 I/O (io), G2 I/O (io), G3 I/O (io), G4 VCC (power), G5 I/O (io), G6 I/O (io), G7 I/O (io)

## XCR3064XL-7CS48I
designator U?
CoolRunner XPLA3, 3.3V, 64 Macrocell CPLD, 48-Ball CSBGA, Industrial Grade; PackageDocument: ver1.1, Apr-2001; Published: 17-Jul-2002; DatasheetDocument: ver2.1, Feb-2004; PackageReference: CS48; Publisher: Altium Limited
footprint CS48 (48-Ball Chip Scale Ball Grid Array (CS48))
3D model XCR3064XL-CS48 (48-Ball Chip Scale Ball Grid Array (CS48))
signal-integrity model XCR3064XL_CS48 (CoolRunner XPLA3)
pins: A1 I/O (io), A2 I/O (io), A3 IN0/CLK0 (in), A4 IN2/CLK2 (in), A5 GND (power), A6 I/O (io), A7 I/O (io), B1 I/O, TDI (io), B2 I/O (io), B3 VCC (power), B4 IN1/CLK1 (in), B5 IN3/CLK3 (in), B6 I/O (io), B7 I/O, TDO (io), C1 I/O (io), C2 I/O (io), C3 PORT_EN (in), C4 I/O (io), C5 I/O (io), C6 I/O (io), C7 VCC (power), D1 I/O (io), D2 I/O, TMS (io), D3 I/O (io), D4 I/O (io), D6 I/O (io), D7 I/O (io), E1 I/O (io), E2 VCC (power), E3 GND (power), E4 I/O (io), E5 I/O, TCK (io), E6 GND (power), E7 I/O (io), F1 I/O (io), F2 I/O (io), F3 I/O (io), F4 I/O (io), F5 I/O (io), F6 I/O (io), F7 I/O (io), G1 I/O (io), G2 I/O (io), G3 I/O (io), G4 VCC (power), G5 I/O (io), G6 I/O (io), G7 I/O (io)

## XCR3064XL-7PC44C
designator U?
CoolRunner XPLA3, 3.3V, 64 Macrocell CPLD, 44-Pin PLCC, Commercial Grade; PackageDocument: ver1.0, Jun-2000; Published: 17-Jul-2002; DatasheetDocument: ver2.1, Feb-2004; PackageReference: PC44; Publisher: Altium Limited; Code_JEDEC: MS-047; Code_IPC: PLCC-44
footprint PC44 (44-Pin Plastic Leaded Chip Carrier (PC44))
3D model XCR3064XL-PC44 (44-Pin Plastic Leaded Chip Carrier (PC44))
signal-integrity model XCR3064XL_PC44 (CoolRunner XPLA3)
pins: 1 IN1/CLK1 (in), 2 IN0/CLK0 (in), 3 VCC (power), 4 I/O (io), 5 I/O (io), 6 I/O (io), 7 I/O, TDI (io), 8 I/O (io), 9 I/O (io), 10 PORT_EN (in), 11 I/O (io), 12 I/O (io), 13 I/O, TMS (io), 14 I/O (io), 15 VCC (power), 16 I/O (io), 17 I/O (io), 18 I/O (io), 19 I/O (io), 20 I/O (io), 21 I/O (io), 22 GND (power), 23 VCC (power), 24 I/O (io), 25 I/O (io), 26 I/O (io), 27 I/O (io), 28 I/O (io), 29 I/O (io), 30 GND (power), 31 I/O (io), 32 I/O, TCK (io), 33 I/O (io), 34 I/O (io), 35 VCC (power), 36 I/O (io), 37 I/O (io), 38 I/O, TDO (io), 39 I/O (io), 40 I/O (io), 41 I/O (io), 42 GND (power), 43 IN3/CLK3 (in), 44 IN2/CLK2 (in)

## XCR3064XL-7PC44I
designator U?
CoolRunner XPLA3, 3.3V, 64 Macrocell CPLD, 44-Pin PLCC, Industrial Grade; PackageDocument: ver1.0, Jun-2000; Published: 17-Jul-2002; DatasheetDocument: ver2.1, Feb-2004; PackageReference: PC44; Publisher: Altium Limited; Code_JEDEC: MS-047; Code_IPC: PLCC-44
footprint PC44 (44-Pin Plastic Leaded Chip Carrier (PC44))
3D model XCR3064XL-PC44 (44-Pin Plastic Leaded Chip Carrier (PC44))
signal-integrity model XCR3064XL_PC44 (CoolRunner XPLA3)
pins: 1 IN1/CLK1 (in), 2 IN0/CLK0 (in), 3 VCC (power), 4 I/O (io), 5 I/O (io), 6 I/O (io), 7 I/O, TDI (io), 8 I/O (io), 9 I/O (io), 10 PORT_EN (in), 11 I/O (io), 12 I/O (io), 13 I/O, TMS (io), 14 I/O (io), 15 VCC (power), 16 I/O (io), 17 I/O (io), 18 I/O (io), 19 I/O (io), 20 I/O (io), 21 I/O (io), 22 GND (power), 23 VCC (power), 24 I/O (io), 25 I/O (io), 26 I/O (io), 27 I/O (io), 28 I/O (io), 29 I/O (io), 30 GND (power), 31 I/O (io), 32 I/O, TCK (io), 33 I/O (io), 34 I/O (io), 35 VCC (power), 36 I/O (io), 37 I/O (io), 38 I/O, TDO (io), 39 I/O (io), 40 I/O (io), 41 I/O (io), 42 GND (power), 43 IN3/CLK3 (in), 44 IN2/CLK2 (in)

## XCR3064XL-7VQ44C
designator U?
CoolRunner XPLA3, 3.3V, 64 Macrocell CPLD, 44-Pin VQFP, Commercial Grade; PackageDocument: ver1.1, Oct-2002; Published: 17-Jul-2002; DatasheetDocument: ver2.1, Feb-2004; PackageReference: VQ44; Publisher: Altium Limited; Code_JEDEC: MS-026-ACB
footprint VQ44 (44-Pin Very Thin Quad Flat Pack (VQ44))
3D model XCR3064XL-VQ44 (44-Pin Very Thin Quad Flat Pack (VQ44))
signal-integrity model XCR3064XL_VQ44 (CoolRunner XPLA3)
pins: 1 I/O, TDI (io), 2 I/O (io), 3 I/O (io), 4 PORT_EN (in), 5 I/O (io), 6 I/O (io), 7 I/O, TMS (io), 8 I/O (io), 9 VCC (power), 10 I/O (io), 11 I/O (io), 12 I/O (io), 13 I/O (io), 14 I/O (io), 15 I/O (io), 16 GND (power), 17 VCC (power), 18 I/O (io), 19 I/O (io), 20 I/O (io), 21 I/O (io), 22 I/O (io), 23 I/O (io), 24 GND (power), 25 I/O (io), 26 I/O, TCK (io), 27 I/O (io), 28 I/O (io), 29 VCC (power), 30 I/O (io), 31 I/O (io), 32 I/O, TDO (io), 33 I/O (io), 34 I/O (io), 35 I/O (io), 36 GND (power), 37 IN3/CLK3 (in), 38 IN2/CLK2 (in), 39 IN1/CLK1 (in), 40 IN0/CLK0 (in), 41 VCC (power), 42 I/O (io), 43 I/O (io), 44 I/O (io)

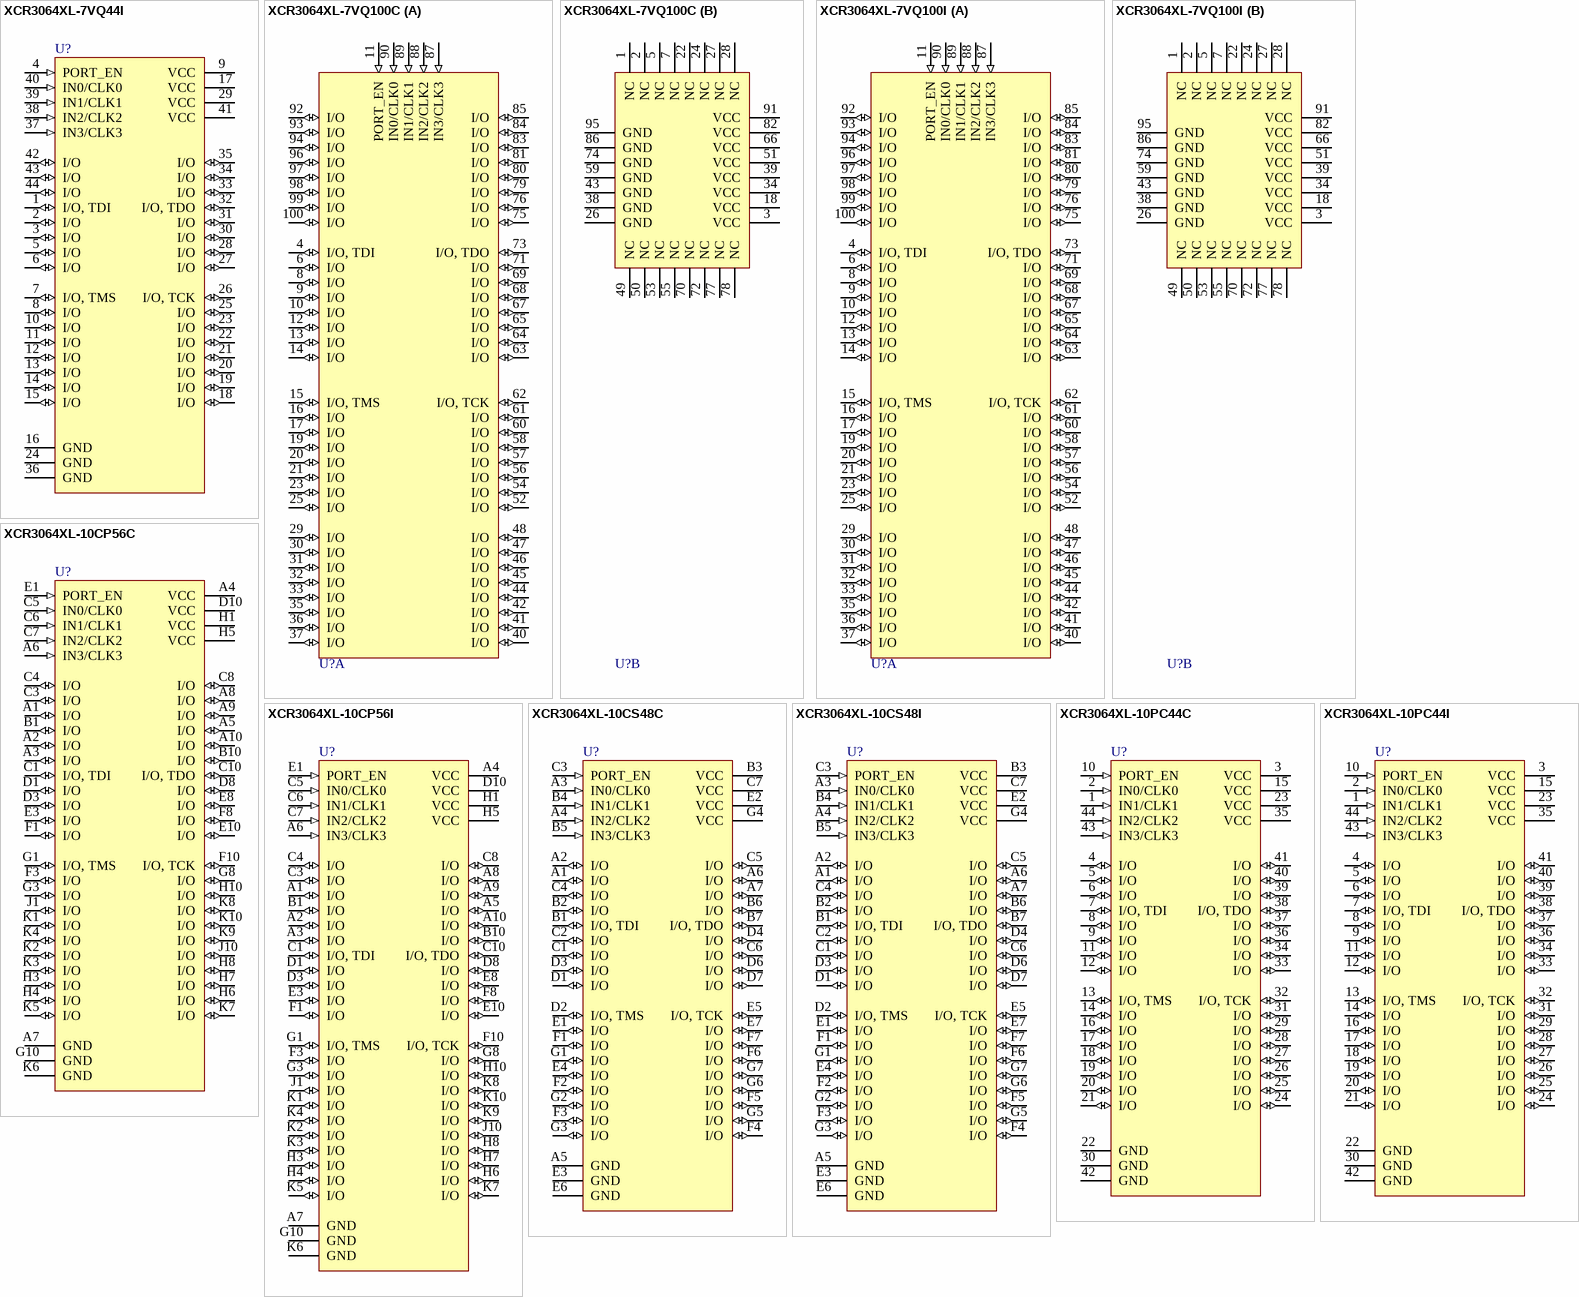
[diagram p2: symbols XCR3064XL-7VQ44I to XCR3064XL-10PC44I]

## XCR3064XL-7VQ44I
designator U?
CoolRunner XPLA3, 3.3V, 64 Macrocell CPLD, 44-Pin VQFP, Industrial Grade; PackageDocument: ver1.1, Oct-2002; Published: 17-Jul-2002; DatasheetDocument: ver2.1, Feb-2004; PackageReference: VQ44; Publisher: Altium Limited; Code_JEDEC: MS-026-ACB
footprint VQ44 (44-Pin Very Thin Quad Flat Pack (VQ44))
3D model XCR3064XL-VQ44 (44-Pin Very Thin Quad Flat Pack (VQ44))
signal-integrity model XCR3064XL_VQ44 (CoolRunner XPLA3)
pins: 1 I/O, TDI (io), 2 I/O (io), 3 I/O (io), 4 PORT_EN (in), 5 I/O (io), 6 I/O (io), 7 I/O, TMS (io), 8 I/O (io), 9 VCC (power), 10 I/O (io), 11 I/O (io), 12 I/O (io), 13 I/O (io), 14 I/O (io), 15 I/O (io), 16 GND (power), 17 VCC (power), 18 I/O (io), 19 I/O (io), 20 I/O (io), 21 I/O (io), 22 I/O (io), 23 I/O (io), 24 GND (power), 25 I/O (io), 26 I/O, TCK (io), 27 I/O (io), 28 I/O (io), 29 VCC (power), 30 I/O (io), 31 I/O (io), 32 I/O, TDO (io), 33 I/O (io), 34 I/O (io), 35 I/O (io), 36 GND (power), 37 IN3/CLK3 (in), 38 IN2/CLK2 (in), 39 IN1/CLK1 (in), 40 IN0/CLK0 (in), 41 VCC (power), 42 I/O (io), 43 I/O (io), 44 I/O (io)

## XCR3064XL-7VQ100C
designator U?
CoolRunner XPLA3, 3.3V, 64 Macrocell CPLD, 100-Pin VQFP, Commercial Grade; PackageDocument: ver1.1, Oct-2002; Published: 17-Jul-2002; DatasheetDocument: ver2.1, Feb-2004; PackageReference: VQ100; Publisher: Altium Limited; Code_JEDEC: MS-026-AED; Code_IPC: SQFP14X14-100
footprint VQ100 (100-Pin Very Thin Quad Flat Pack (VQ100))
3D model XCR3064XL-VQ100 (100-Pin Very Thin Quad Flat Pack (VQ100))
signal-integrity model XCR3064XL_VQ100 (CoolRunner XPLA3)
part A pins: 4 I/O, TDI (io), 6 I/O (io), 8 I/O (io), 9 I/O (io), 10 I/O (io), 11 PORT_EN (in), 12 I/O (io), 13 I/O (io), 14 I/O (io), 15 I/O, TMS (io), 16 I/O (io), 17 I/O (io), 19 I/O (io), 20 I/O (io), 21 I/O (io), 23 I/O (io), 25 I/O (io), 29 I/O (io), 30 I/O (io), 31 I/O (io), 32 I/O (io), 33 I/O (io), 35 I/O (io), 36 I/O (io), 37 I/O (io), 40 I/O (io), 41 I/O (io), 42 I/O (io), 44 I/O (io), 45 I/O (io), 46 I/O (io), 47 I/O (io), 48 I/O (io), 52 I/O (io), 54 I/O (io), 56 I/O (io), 57 I/O (io), 58 I/O (io), 60 I/O (io), 61 I/O (io), 62 I/O, TCK (io), 63 I/O (io), 64 I/O (io), 65 I/O (io), 67 I/O (io), 68 I/O (io), 69 I/O (io), 71 I/O (io), 73 I/O, TDO (io), 75 I/O (io), 76 I/O (io), 79 I/O (io), 80 I/O (io), 81 I/O (io), 83 I/O (io), 84 I/O (io), 85 I/O (io), 87 IN3/CLK3 (in), 88 IN2/CLK2 (in), 89 IN1/CLK1 (in), 90 IN0/CLK0 (in), 92 I/O (io), 93 I/O (io), 94 I/O (io), 96 I/O (io), 97 I/O (io), 98 I/O (io), 99 I/O (io), 100 I/O (io)
part B pins: 1 NC, 2 NC, 3 VCC (power), 5 NC, 7 NC, 18 VCC (power), 22 NC, 24 NC, 26 GND (power), 27 NC, 28 NC, 34 VCC (power), 38 GND (power), 39 VCC (power), 43 GND (power), 49 NC, 50 NC, 51 VCC (power), 53 NC, 55 NC, 59 GND (power), 66 VCC (power), 70 NC, 72 NC, 74 GND (power), 77 NC, 78 NC, 82 VCC (power), 86 GND (power), 91 VCC (power), 95 GND (power)

## XCR3064XL-7VQ100I
designator U?
CoolRunner XPLA3, 3.3V, 64 Macrocell CPLD, 100-Pin VQFP, Industrial Grade; PackageDocument: ver1.1, Oct-2002; Published: 17-Jul-2002; DatasheetDocument: ver2.1, Feb-2004; PackageReference: VQ100; Publisher: Altium Limited; Code_JEDEC: MS-026-AED; Code_IPC: SQFP14X14-100
footprint VQ100 (100-Pin Very Thin Quad Flat Pack (VQ100))
3D model XCR3064XL-VQ100 (100-Pin Very Thin Quad Flat Pack (VQ100))
signal-integrity model XCR3064XL_VQ100 (CoolRunner XPLA3)
part A pins: 4 I/O, TDI (io), 6 I/O (io), 8 I/O (io), 9 I/O (io), 10 I/O (io), 11 PORT_EN (in), 12 I/O (io), 13 I/O (io), 14 I/O (io), 15 I/O, TMS (io), 16 I/O (io), 17 I/O (io), 19 I/O (io), 20 I/O (io), 21 I/O (io), 23 I/O (io), 25 I/O (io), 29 I/O (io), 30 I/O (io), 31 I/O (io), 32 I/O (io), 33 I/O (io), 35 I/O (io), 36 I/O (io), 37 I/O (io), 40 I/O (io), 41 I/O (io), 42 I/O (io), 44 I/O (io), 45 I/O (io), 46 I/O (io), 47 I/O (io), 48 I/O (io), 52 I/O (io), 54 I/O (io), 56 I/O (io), 57 I/O (io), 58 I/O (io), 60 I/O (io), 61 I/O (io), 62 I/O, TCK (io), 63 I/O (io), 64 I/O (io), 65 I/O (io), 67 I/O (io), 68 I/O (io), 69 I/O (io), 71 I/O (io), 73 I/O, TDO (io), 75 I/O (io), 76 I/O (io), 79 I/O (io), 80 I/O (io), 81 I/O (io), 83 I/O (io), 84 I/O (io), 85 I/O (io), 87 IN3/CLK3 (in), 88 IN2/CLK2 (in), 89 IN1/CLK1 (in), 90 IN0/CLK0 (in), 92 I/O (io), 93 I/O (io), 94 I/O (io), 96 I/O (io), 97 I/O (io), 98 I/O (io), 99 I/O (io), 100 I/O (io)
part B pins: 1 NC, 2 NC, 3 VCC (power), 5 NC, 7 NC, 18 VCC (power), 22 NC, 24 NC, 26 GND (power), 27 NC, 28 NC, 34 VCC (power), 38 GND (power), 39 VCC (power), 43 GND (power), 49 NC, 50 NC, 51 VCC (power), 53 NC, 55 NC, 59 GND (power), 66 VCC (power), 70 NC, 72 NC, 74 GND (power), 77 NC, 78 NC, 82 VCC (power), 86 GND (power), 91 VCC (power), 95 GND (power)

## XCR3064XL-10CP56C
designator U?
CoolRunner XPLA3, 3.3V, 64 Macrocell CPLD, 56-Ball CSP, Commercial Grade; PackageDocument: ver1.0, Jun-2000; Published: 17-Jul-2002; DatasheetDocument: ver2.1, Feb-2004; PackageReference: CP56; Publisher: Altium Limited
footprint CP56 (56-Ball Chip Scale Ball Grid Array 0.5mm Pitch (CP56))
3D model XCR3064XL-CP56 (56-Ball Chip Scale Ball Grid Array 0.5mm Pitch (CP56))
signal-integrity model XCR3064XL_CP56 (CoolRunner XPLA3)
pins: A1 I/O (io), A2 I/O (io), A3 I/O (io), A4 VCC (power), A5 I/O (io), A6 IN3/CLK3 (in), A7 GND (power), A8 I/O (io), A9 I/O (io), A10 I/O (io), B1 I/O (io), B10 I/O (io), C1 I/O, TDI (io), C3 I/O (io), C4 I/O (io), C5 IN0/CLK0 (in), C6 IN1/CLK1 (in), C7 IN2/CLK2 (in), C8 I/O (io), C10 I/O, TDO (io), D1 I/O (io), D3 I/O (io), D8 I/O (io), D10 VCC (power), E1 PORT_EN (in), E3 I/O (io), E8 I/O (io), E10 I/O (io), F1 I/O (io), F3 I/O (io), F8 I/O (io), F10 I/O, TCK (io), G1 I/O, TMS (io), G3 I/O (io), G8 I/O (io), G10 GND (power), H1 VCC (power), H3 I/O (io), H4 I/O (io), H5 VCC (power), H6 I/O (io), H7 I/O (io), H8 I/O (io), H10 I/O (io), J1 I/O (io), J10 I/O (io), K1 I/O (io), K2 I/O (io), K3 I/O (io), K4 I/O (io), K5 I/O (io), K6 GND (power), K7 I/O (io), K8 I/O (io), K9 I/O (io), K10 I/O (io)

## XCR3064XL-10CP56I
designator U?
CoolRunner XPLA3, 3.3V, 64 Macrocell CPLD, 56-Ball CSP, Industrial Grade; PackageDocument: ver1.0, Jun-2000; Published: 17-Jul-2002; DatasheetDocument: ver2.1, Feb-2004; PackageReference: CP56; Publisher: Altium Limited
footprint CP56 (56-Ball Chip Scale Ball Grid Array 0.5mm Pitch (CP56))
3D model XCR3064XL-CP56 (56-Ball Chip Scale Ball Grid Array 0.5mm Pitch (CP56))
signal-integrity model XCR3064XL_CP56 (CoolRunner XPLA3)
pins: A1 I/O (io), A2 I/O (io), A3 I/O (io), A4 VCC (power), A5 I/O (io), A6 IN3/CLK3 (in), A7 GND (power), A8 I/O (io), A9 I/O (io), A10 I/O (io), B1 I/O (io), B10 I/O (io), C1 I/O, TDI (io), C3 I/O (io), C4 I/O (io), C5 IN0/CLK0 (in), C6 IN1/CLK1 (in), C7 IN2/CLK2 (in), C8 I/O (io), C10 I/O, TDO (io), D1 I/O (io), D3 I/O (io), D8 I/O (io), D10 VCC (power), E1 PORT_EN (in), E3 I/O (io), E8 I/O (io), E10 I/O (io), F1 I/O (io), F3 I/O (io), F8 I/O (io), F10 I/O, TCK (io), G1 I/O, TMS (io), G3 I/O (io), G8 I/O (io), G10 GND (power), H1 VCC (power), H3 I/O (io), H4 I/O (io), H5 VCC (power), H6 I/O (io), H7 I/O (io), H8 I/O (io), H10 I/O (io), J1 I/O (io), J10 I/O (io), K1 I/O (io), K2 I/O (io), K3 I/O (io), K4 I/O (io), K5 I/O (io), K6 GND (power), K7 I/O (io), K8 I/O (io), K9 I/O (io), K10 I/O (io)

## XCR3064XL-10CS48C
designator U?
CoolRunner XPLA3, 3.3V, 64 Macrocell CPLD, 48-Ball CSBGA, Commercial Grade; PackageDocument: ver1.1, Apr-2001; Published: 17-Jul-2002; DatasheetDocument: ver2.1, Feb-2004; PackageReference: CS48; Publisher: Altium Limited
footprint CS48 (48-Ball Chip Scale Ball Grid Array (CS48))
3D model XCR3064XL-CS48 (48-Ball Chip Scale Ball Grid Array (CS48))
signal-integrity model XCR3064XL_CS48 (CoolRunner XPLA3)
pins: A1 I/O (io), A2 I/O (io), A3 IN0/CLK0 (in), A4 IN2/CLK2 (in), A5 GND (power), A6 I/O (io), A7 I/O (io), B1 I/O, TDI (io), B2 I/O (io), B3 VCC (power), B4 IN1/CLK1 (in), B5 IN3/CLK3 (in), B6 I/O (io), B7 I/O, TDO (io), C1 I/O (io), C2 I/O (io), C3 PORT_EN (in), C4 I/O (io), C5 I/O (io), C6 I/O (io), C7 VCC (power), D1 I/O (io), D2 I/O, TMS (io), D3 I/O (io), D4 I/O (io), D6 I/O (io), D7 I/O (io), E1 I/O (io), E2 VCC (power), E3 GND (power), E4 I/O (io), E5 I/O, TCK (io), E6 GND (power), E7 I/O (io), F1 I/O (io), F2 I/O (io), F3 I/O (io), F4 I/O (io), F5 I/O (io), F6 I/O (io), F7 I/O (io), G1 I/O (io), G2 I/O (io), G3 I/O (io), G4 VCC (power), G5 I/O (io), G6 I/O (io), G7 I/O (io)

## XCR3064XL-10CS48I
designator U?
CoolRunner XPLA3, 3.3V, 64 Macrocell CPLD, 48-Ball CSBGA, Industrial Grade; PackageDocument: ver1.1, Apr-2001; Published: 17-Jul-2002; DatasheetDocument: ver2.1, Feb-2004; PackageReference: CS48; Publisher: Altium Limited
footprint CS48 (48-Ball Chip Scale Ball Grid Array (CS48))
3D model XCR3064XL-CS48 (48-Ball Chip Scale Ball Grid Array (CS48))
signal-integrity model XCR3064XL_CS48 (CoolRunner XPLA3)
pins: A1 I/O (io), A2 I/O (io), A3 IN0/CLK0 (in), A4 IN2/CLK2 (in), A5 GND (power), A6 I/O (io), A7 I/O (io), B1 I/O, TDI (io), B2 I/O (io), B3 VCC (power), B4 IN1/CLK1 (in), B5 IN3/CLK3 (in), B6 I/O (io), B7 I/O, TDO (io), C1 I/O (io), C2 I/O (io), C3 PORT_EN (in), C4 I/O (io), C5 I/O (io), C6 I/O (io), C7 VCC (power), D1 I/O (io), D2 I/O, TMS (io), D3 I/O (io), D4 I/O (io), D6 I/O (io), D7 I/O (io), E1 I/O (io), E2 VCC (power), E3 GND (power), E4 I/O (io), E5 I/O, TCK (io), E6 GND (power), E7 I/O (io), F1 I/O (io), F2 I/O (io), F3 I/O (io), F4 I/O (io), F5 I/O (io), F6 I/O (io), F7 I/O (io), G1 I/O (io), G2 I/O (io), G3 I/O (io), G4 VCC (power), G5 I/O (io), G6 I/O (io), G7 I/O (io)

## XCR3064XL-10PC44C
designator U?
CoolRunner XPLA3, 3.3V, 64 Macrocell CPLD, 44-Pin PLCC, Commercial Grade; PackageDocument: ver1.0, Jun-2000; Published: 17-Jul-2002; DatasheetDocument: ver2.1, Feb-2004; PackageReference: PC44; Publisher: Altium Limited; Code_JEDEC: MS-047; Code_IPC: PLCC-44
footprint PC44 (44-Pin Plastic Leaded Chip Carrier (PC44))
3D model XCR3064XL-PC44 (44-Pin Plastic Leaded Chip Carrier (PC44))
signal-integrity model XCR3064XL_PC44 (CoolRunner XPLA3)
pins: 1 IN1/CLK1 (in), 2 IN0/CLK0 (in), 3 VCC (power), 4 I/O (io), 5 I/O (io), 6 I/O (io), 7 I/O, TDI (io), 8 I/O (io), 9 I/O (io), 10 PORT_EN (in), 11 I/O (io), 12 I/O (io), 13 I/O, TMS (io), 14 I/O (io), 15 VCC (power), 16 I/O (io), 17 I/O (io), 18 I/O (io), 19 I/O (io), 20 I/O (io), 21 I/O (io), 22 GND (power), 23 VCC (power), 24 I/O (io), 25 I/O (io), 26 I/O (io), 27 I/O (io), 28 I/O (io), 29 I/O (io), 30 GND (power), 31 I/O (io), 32 I/O, TCK (io), 33 I/O (io), 34 I/O (io), 35 VCC (power), 36 I/O (io), 37 I/O (io), 38 I/O, TDO (io), 39 I/O (io), 40 I/O (io), 41 I/O (io), 42 GND (power), 43 IN3/CLK3 (in), 44 IN2/CLK2 (in)

## XCR3064XL-10PC44I
designator U?
CoolRunner XPLA3, 3.3V, 64 Macrocell CPLD, 44-Pin PLCC, Industrial Grade; PackageDocument: ver1.0, Jun-2000; Published: 17-Jul-2002; DatasheetDocument: ver2.1, Feb-2004; PackageReference: PC44; Publisher: Altium Limited; Code_JEDEC: MS-047; Code_IPC: PLCC-44
footprint PC44 (44-Pin Plastic Leaded Chip Carrier (PC44))
3D model XCR3064XL-PC44 (44-Pin Plastic Leaded Chip Carrier (PC44))
signal-integrity model XCR3064XL_PC44 (CoolRunner XPLA3)
pins: 1 IN1/CLK1 (in), 2 IN0/CLK0 (in), 3 VCC (power), 4 I/O (io), 5 I/O (io), 6 I/O (io), 7 I/O, TDI (io), 8 I/O (io), 9 I/O (io), 10 PORT_EN (in), 11 I/O (io), 12 I/O (io), 13 I/O, TMS (io), 14 I/O (io), 15 VCC (power), 16 I/O (io), 17 I/O (io), 18 I/O (io), 19 I/O (io), 20 I/O (io), 21 I/O (io), 22 GND (power), 23 VCC (power), 24 I/O (io), 25 I/O (io), 26 I/O (io), 27 I/O (io), 28 I/O (io), 29 I/O (io), 30 GND (power), 31 I/O (io), 32 I/O, TCK (io), 33 I/O (io), 34 I/O (io), 35 VCC (power), 36 I/O (io), 37 I/O (io), 38 I/O, TDO (io), 39 I/O (io), 40 I/O (io), 41 I/O (io), 42 GND (power), 43 IN3/CLK3 (in), 44 IN2/CLK2 (in)

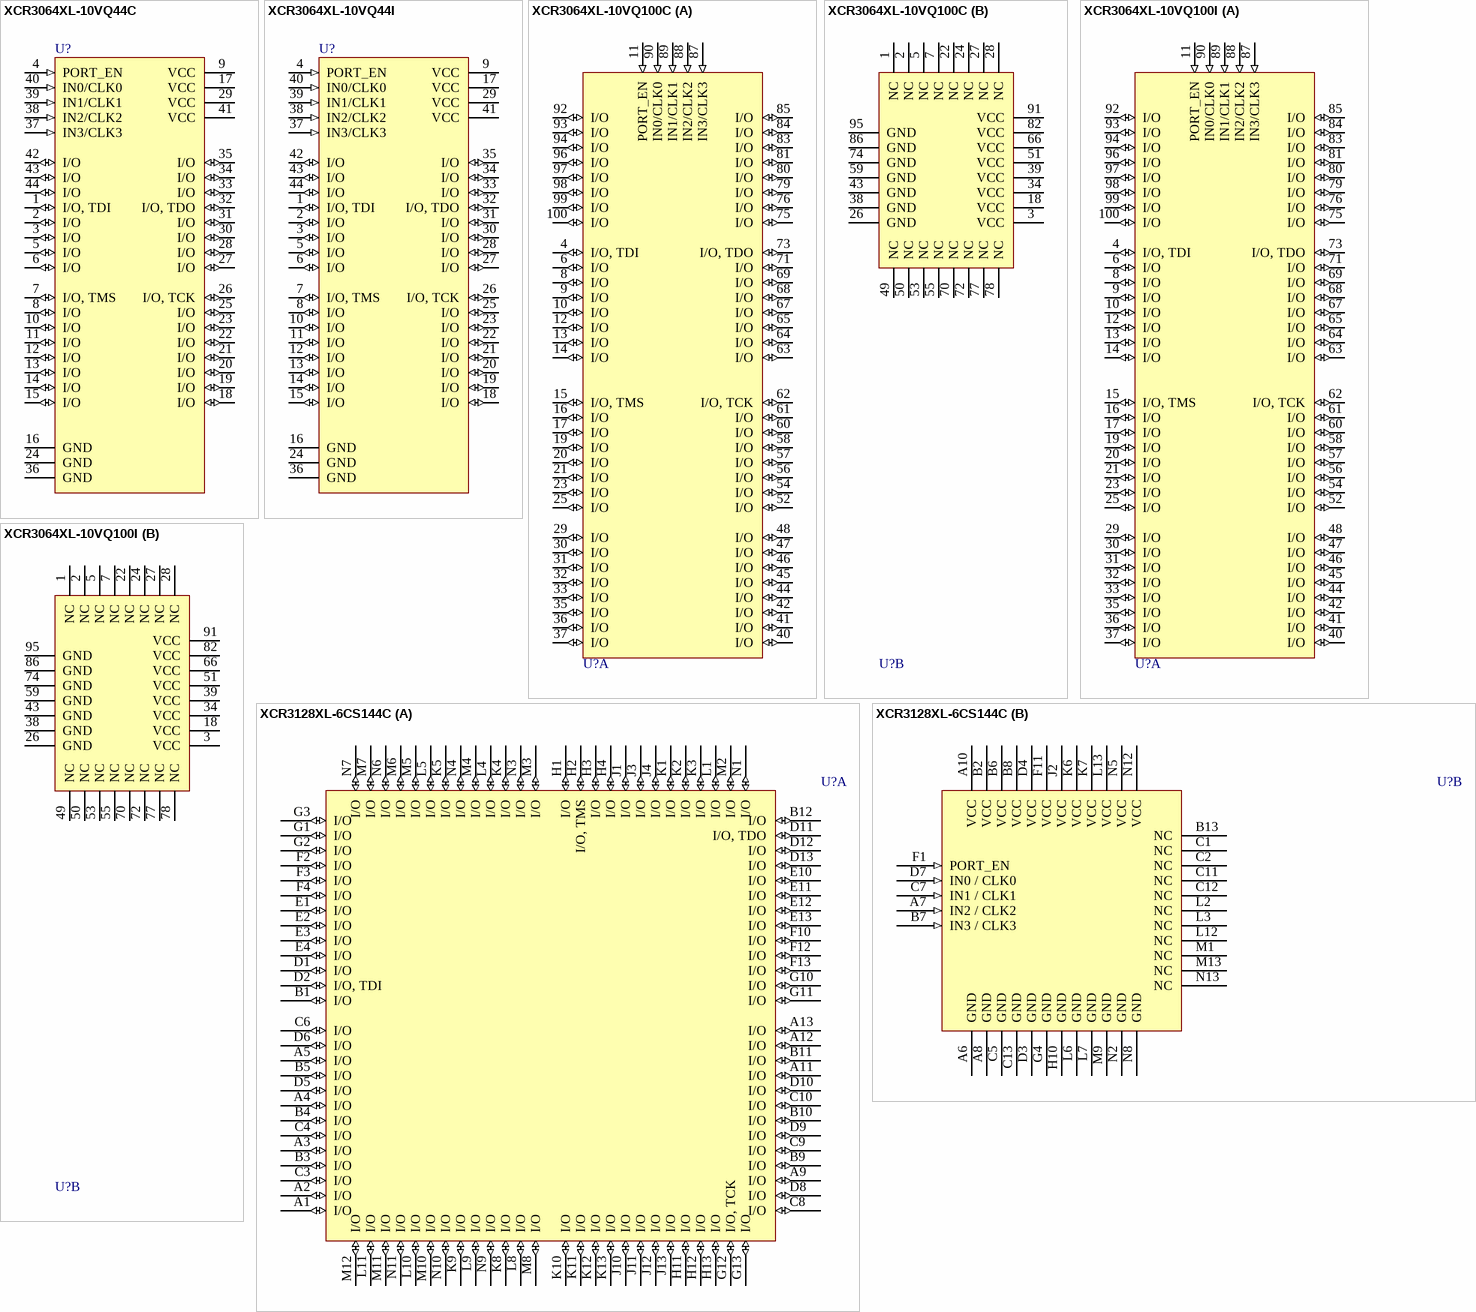
[diagram p3: symbols XCR3064XL-10VQ44C to XCR3128XL-6CS144C]

## XCR3064XL-10VQ44C
designator U?
CoolRunner XPLA3, 3.3V, 64 Macrocell CPLD, 44-Pin VQFP, Commercial Grade; PackageDocument: ver1.1, Oct-2002; Published: 17-Jul-2002; DatasheetDocument: ver2.1, Feb-2004; PackageReference: VQ44; Publisher: Altium Limited; Code_JEDEC: MS-026-ACB
footprint VQ44 (44-Pin Very Thin Quad Flat Pack (VQ44))
3D model XCR3064XL-VQ44 (44-Pin Very Thin Quad Flat Pack (VQ44))
signal-integrity model XCR3064XL_VQ44 (CoolRunner XPLA3)
pins: 1 I/O, TDI (io), 2 I/O (io), 3 I/O (io), 4 PORT_EN (in), 5 I/O (io), 6 I/O (io), 7 I/O, TMS (io), 8 I/O (io), 9 VCC (power), 10 I/O (io), 11 I/O (io), 12 I/O (io), 13 I/O (io), 14 I/O (io), 15 I/O (io), 16 GND (power), 17 VCC (power), 18 I/O (io), 19 I/O (io), 20 I/O (io), 21 I/O (io), 22 I/O (io), 23 I/O (io), 24 GND (power), 25 I/O (io), 26 I/O, TCK (io), 27 I/O (io), 28 I/O (io), 29 VCC (power), 30 I/O (io), 31 I/O (io), 32 I/O, TDO (io), 33 I/O (io), 34 I/O (io), 35 I/O (io), 36 GND (power), 37 IN3/CLK3 (in), 38 IN2/CLK2 (in), 39 IN1/CLK1 (in), 40 IN0/CLK0 (in), 41 VCC (power), 42 I/O (io), 43 I/O (io), 44 I/O (io)

## XCR3064XL-10VQ44I
designator U?
CoolRunner XPLA3, 3.3V, 64 Macrocell CPLD, 44-Pin VQFP, Industrial Grade; PackageDocument: ver1.1, Oct-2002; Published: 17-Jul-2002; DatasheetDocument: ver2.1, Feb-2004; PackageReference: VQ44; Publisher: Altium Limited; Code_JEDEC: MS-026-ACB
footprint VQ44 (44-Pin Very Thin Quad Flat Pack (VQ44))
3D model XCR3064XL-VQ44 (44-Pin Very Thin Quad Flat Pack (VQ44))
signal-integrity model XCR3064XL_VQ44 (CoolRunner XPLA3)
pins: 1 I/O, TDI (io), 2 I/O (io), 3 I/O (io), 4 PORT_EN (in), 5 I/O (io), 6 I/O (io), 7 I/O, TMS (io), 8 I/O (io), 9 VCC (power), 10 I/O (io), 11 I/O (io), 12 I/O (io), 13 I/O (io), 14 I/O (io), 15 I/O (io), 16 GND (power), 17 VCC (power), 18 I/O (io), 19 I/O (io), 20 I/O (io), 21 I/O (io), 22 I/O (io), 23 I/O (io), 24 GND (power), 25 I/O (io), 26 I/O, TCK (io), 27 I/O (io), 28 I/O (io), 29 VCC (power), 30 I/O (io), 31 I/O (io), 32 I/O, TDO (io), 33 I/O (io), 34 I/O (io), 35 I/O (io), 36 GND (power), 37 IN3/CLK3 (in), 38 IN2/CLK2 (in), 39 IN1/CLK1 (in), 40 IN0/CLK0 (in), 41 VCC (power), 42 I/O (io), 43 I/O (io), 44 I/O (io)

## XCR3064XL-10VQ100C
designator U?
CoolRunner XPLA3, 3.3V, 64 Macrocell CPLD, 100-Pin VQFP, Commercial Grade; PackageDocument: ver1.1, Oct-2002; Published: 17-Jul-2002; DatasheetDocument: ver2.1, Feb-2004; PackageReference: VQ100; Publisher: Altium Limited; Code_JEDEC: MS-026-AED; Code_IPC: SQFP14X14-100
footprint VQ100 (100-Pin Very Thin Quad Flat Pack (VQ100))
3D model XCR3064XL-VQ100 (100-Pin Very Thin Quad Flat Pack (VQ100))
signal-integrity model XCR3064XL_VQ100 (CoolRunner XPLA3)
part A pins: 4 I/O, TDI (io), 6 I/O (io), 8 I/O (io), 9 I/O (io), 10 I/O (io), 11 PORT_EN (in), 12 I/O (io), 13 I/O (io), 14 I/O (io), 15 I/O, TMS (io), 16 I/O (io), 17 I/O (io), 19 I/O (io), 20 I/O (io), 21 I/O (io), 23 I/O (io), 25 I/O (io), 29 I/O (io), 30 I/O (io), 31 I/O (io), 32 I/O (io), 33 I/O (io), 35 I/O (io), 36 I/O (io), 37 I/O (io), 40 I/O (io), 41 I/O (io), 42 I/O (io), 44 I/O (io), 45 I/O (io), 46 I/O (io), 47 I/O (io), 48 I/O (io), 52 I/O (io), 54 I/O (io), 56 I/O (io), 57 I/O (io), 58 I/O (io), 60 I/O (io), 61 I/O (io), 62 I/O, TCK (io), 63 I/O (io), 64 I/O (io), 65 I/O (io), 67 I/O (io), 68 I/O (io), 69 I/O (io), 71 I/O (io), 73 I/O, TDO (io), 75 I/O (io), 76 I/O (io), 79 I/O (io), 80 I/O (io), 81 I/O (io), 83 I/O (io), 84 I/O (io), 85 I/O (io), 87 IN3/CLK3 (in), 88 IN2/CLK2 (in), 89 IN1/CLK1 (in), 90 IN0/CLK0 (in), 92 I/O (io), 93 I/O (io), 94 I/O (io), 96 I/O (io), 97 I/O (io), 98 I/O (io), 99 I/O (io), 100 I/O (io)
part B pins: 1 NC, 2 NC, 3 VCC (power), 5 NC, 7 NC, 18 VCC (power), 22 NC, 24 NC, 26 GND (power), 27 NC, 28 NC, 34 VCC (power), 38 GND (power), 39 VCC (power), 43 GND (power), 49 NC, 50 NC, 51 VCC (power), 53 NC, 55 NC, 59 GND (power), 66 VCC (power), 70 NC, 72 NC, 74 GND (power), 77 NC, 78 NC, 82 VCC (power), 86 GND (power), 91 VCC (power), 95 GND (power)

## XCR3064XL-10VQ100I
designator U?
CoolRunner XPLA3, 3.3V, 64 Macrocell CPLD, 100-Pin VQFP, Industrial Grade; PackageDocument: ver1.1, Oct-2002; Published: 17-Jul-2002; DatasheetDocument: ver2.1, Feb-2004; PackageReference: VQ100; Publisher: Altium Limited; Code_JEDEC: MS-026-AED; Code_IPC: SQFP14X14-100
footprint VQ100 (100-Pin Very Thin Quad Flat Pack (VQ100))
3D model XCR3064XL-VQ100 (100-Pin Very Thin Quad Flat Pack (VQ100))
signal-integrity model XCR3064XL_VQ100 (CoolRunner XPLA3)
part A pins: 4 I/O, TDI (io), 6 I/O (io), 8 I/O (io), 9 I/O (io), 10 I/O (io), 11 PORT_EN (in), 12 I/O (io), 13 I/O (io), 14 I/O (io), 15 I/O, TMS (io), 16 I/O (io), 17 I/O (io), 19 I/O (io), 20 I/O (io), 21 I/O (io), 23 I/O (io), 25 I/O (io), 29 I/O (io), 30 I/O (io), 31 I/O (io), 32 I/O (io), 33 I/O (io), 35 I/O (io), 36 I/O (io), 37 I/O (io), 40 I/O (io), 41 I/O (io), 42 I/O (io), 44 I/O (io), 45 I/O (io), 46 I/O (io), 47 I/O (io), 48 I/O (io), 52 I/O (io), 54 I/O (io), 56 I/O (io), 57 I/O (io), 58 I/O (io), 60 I/O (io), 61 I/O (io), 62 I/O, TCK (io), 63 I/O (io), 64 I/O (io), 65 I/O (io), 67 I/O (io), 68 I/O (io), 69 I/O (io), 71 I/O (io), 73 I/O, TDO (io), 75 I/O (io), 76 I/O (io), 79 I/O (io), 80 I/O (io), 81 I/O (io), 83 I/O (io), 84 I/O (io), 85 I/O (io), 87 IN3/CLK3 (in), 88 IN2/CLK2 (in), 89 IN1/CLK1 (in), 90 IN0/CLK0 (in), 92 I/O (io), 93 I/O (io), 94 I/O (io), 96 I/O (io), 97 I/O (io), 98 I/O (io), 99 I/O (io), 100 I/O (io)
part B pins: 1 NC, 2 NC, 3 VCC (power), 5 NC, 7 NC, 18 VCC (power), 22 NC, 24 NC, 26 GND (power), 27 NC, 28 NC, 34 VCC (power), 38 GND (power), 39 VCC (power), 43 GND (power), 49 NC, 50 NC, 51 VCC (power), 53 NC, 55 NC, 59 GND (power), 66 VCC (power), 70 NC, 72 NC, 74 GND (power), 77 NC, 78 NC, 82 VCC (power), 86 GND (power), 91 VCC (power), 95 GND (power)